# Altium schematic symbol library MCU_Microchip_PIC18.SchLib: 173 symbols (part 2 of 4)
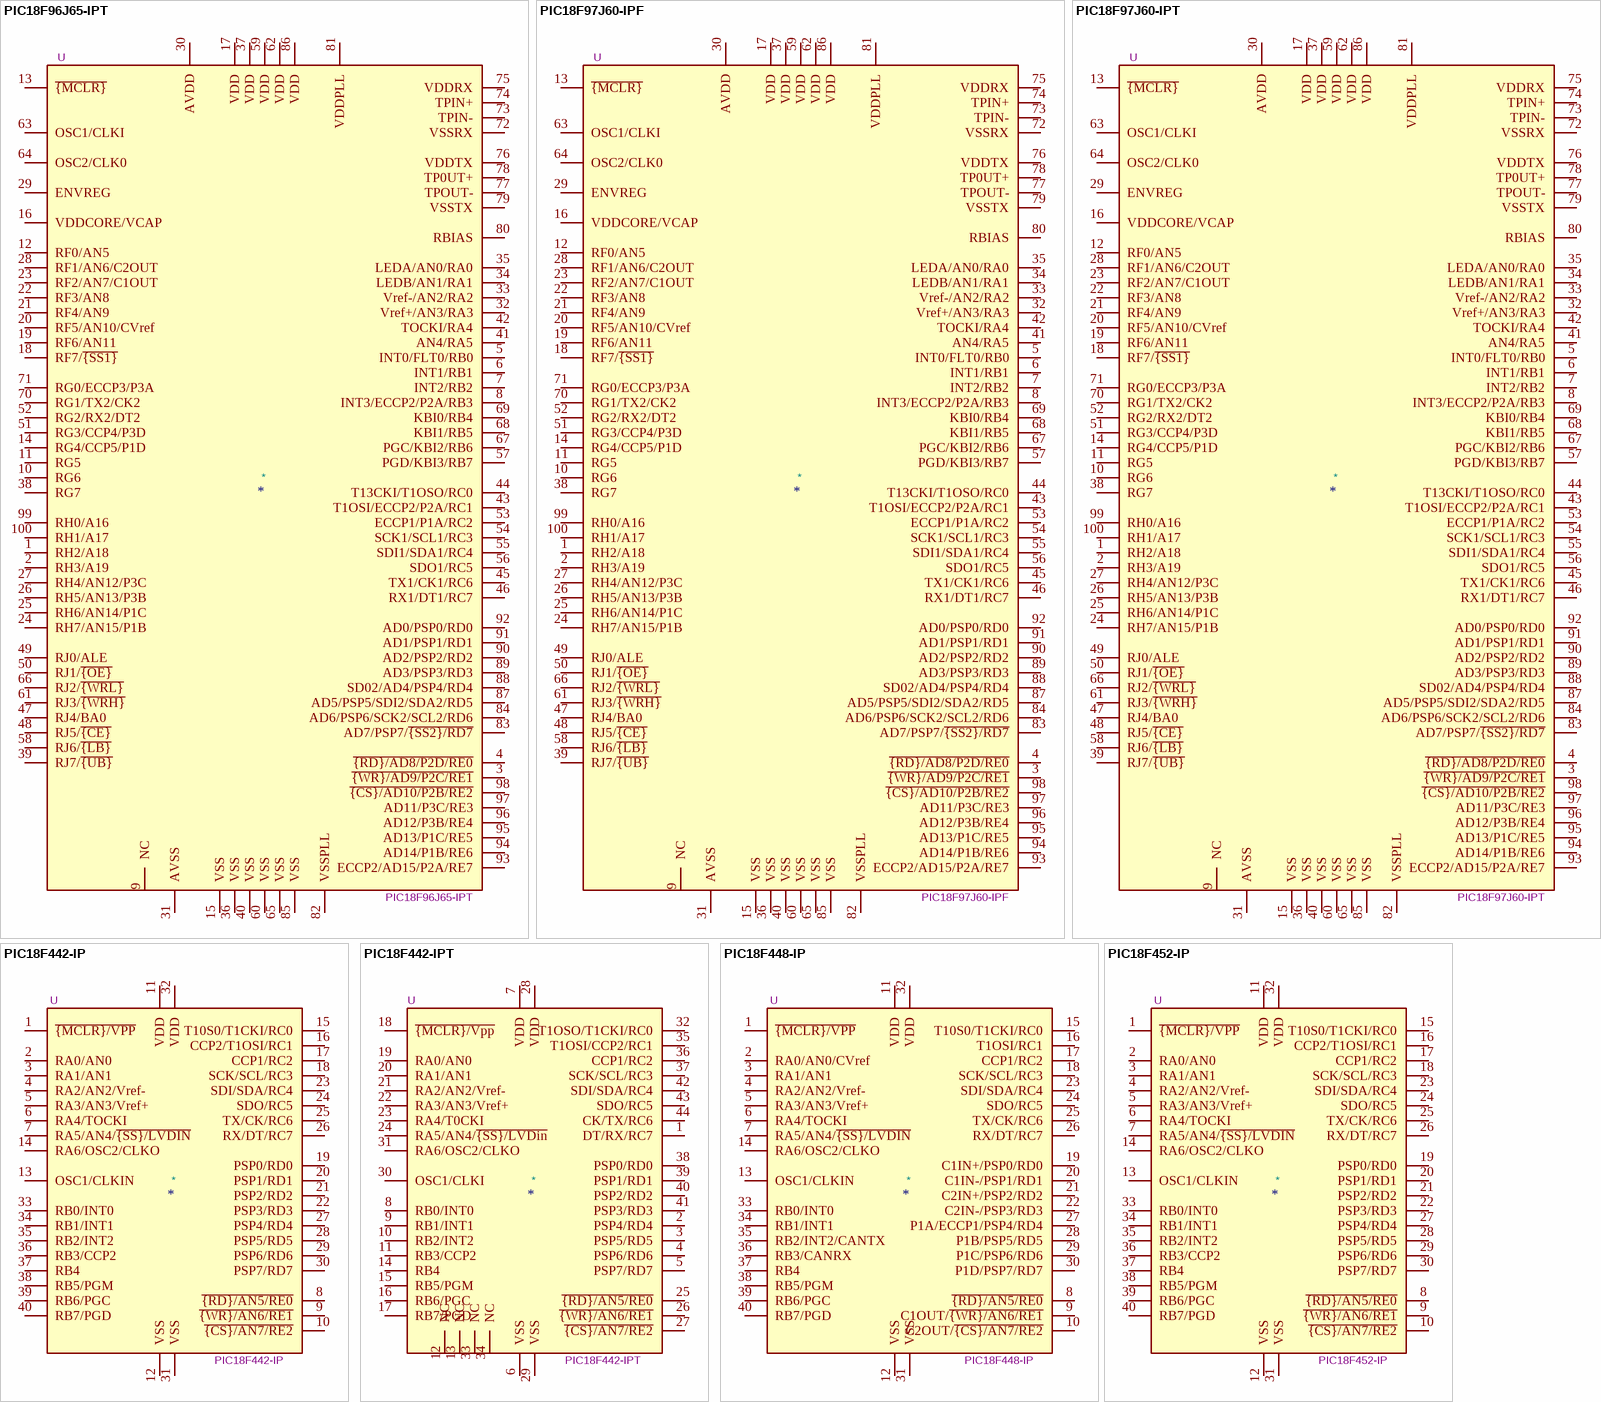
[diagram p17: symbols PIC18F96J65-IPT to PIC18F452-IP]

## PIC18F96J65-IPT
designator *  value PIC18F96J65-IPT  Reference: U
96K Flash, 3.7K SRAM, Ethernet Controller with PHY, 8K Buffer, TQFP100; ki_keywords: Flash Based 8-Bit Microcontroller Ethernet Controller PHY; ki_fp_filters: TQFP*12x12mm*P0.4mm* TQFP*14x14mm*P0.5mm*; Footprint: Package_QFP:TQFP-100_12x12mm_P0.4mm; Datasheet: http://ww1.microchip.com/downloads/en/DeviceDoc/39762f.pdf; Description_: 96K Flash, 3.7K SRAM, Ethernet Controller with PHY, 8K Buffer, TQFP100
pins: 1 RH2/A18, 2 RH3/A19, 3 ~{{WR}/AD9/P2C/RE1}, 4 ~{{RD}/AD8/P2D/RE0}, 5 INT0/FLT0/RB0, 6 INT1/RB1, 7 INT2/RB2, 8 INT3/ECCP2/P2A/RB3, 9 NC, 10 RG6, 11 RG5, 12 RF0/AN5, 13 ~{{MCLR}}, 14 RG4/CCP5/P1D, 15 VSS, 16 VDDCORE/VCAP, 17 VDD, 18 RF7/~{{SS1}}, 19 RF6/AN11, 20 RF5/AN10/CVref, 21 RF4/AN9, 22 RF3/AN8, 23 RF2/AN7/C1OUT, 24 RH7/AN15/P1B, 25 RH6/AN14/P1C, 26 RH5/AN13/P3B, 27 RH4/AN12/P3C, 28 RF1/AN6/C2OUT, 29 ENVREG, 30 AVDD, 31 AVSS, 32 Vref+/AN3/RA3, 33 Vref-/AN2/RA2, 34 LEDB/AN1/RA1, 35 LEDA/AN0/RA0, 36 VSS, 37 VDD, 38 RG7, 39 RJ7/~{{UB}}, 40 VSS, 41 AN4/RA5, 42 TOCKI/RA4, 43 T1OSI/ECCP2/P2A/RC1, 44 T13CKI/T1OSO/RC0, 45 TX1/CK1/RC6, 46 RX1/DT1/RC7, 47 RJ4/BA0, 48 RJ5/~{{CE}}, 49 RJ0/ALE, 50 RJ1/~{{OE}}, 51 RG3/CCP4/P3D, 52 RG2/RX2/DT2, 53 ECCP1/P1A/RC2, 54 SCK1/SCL1/RC3, 55 SDI1/SDA1/RC4, 56 SDO1/RC5, 57 PGD/KBI3/RB7, 58 RJ6/~{{LB}}, 59 VDD, 60 VSS, 61 RJ3/~{{WRH}}, 62 VDD, 63 OSC1/CLKI, 64 OSC2/CLK0, 65 VSS, 66 RJ2/~{{WRL}}, 67 PGC/KBI2/RB6, 68 KBI1/RB5, 69 KBI0/RB4, 70 RG1/TX2/CK2, 71 RG0/ECCP3/P3A, 72 VSSRX, 73 TPIN-, 74 TPIN+, 75 VDDRX, 76 VDDTX, 77 TPOUT-, 78 TP0UT+, 79 VSSTX, 80 RBIAS, 81 VDDPLL, 82 VSSPLL, 83 AD7/PSP7/~{{SS2}/RD7}, 84 AD6/PSP6/SCK2/SCL2/RD6, 85 VSS, 86 VDD, 87 AD5/PSP5/SDI2/SDA2/RD5, 88 SD02/AD4/PSP4/RD4, 89 AD3/PSP3/RD3, 90 AD2/PSP2/RD2, 91 AD1/PSP1/RD1, 92 AD0/PSP0/RD0, 93 ECCP2/AD15/P2A/RE7, 94 AD14/P1B/RE6, 95 AD13/P1C/RE5, 96 AD12/P3B/RE4, 97 AD11/P3C/RE3, 98 ~{{CS}/AD10/P2B/RE2}, 99 RH0/A16, 100 RH1/A17

## PIC18F97J60-IPF
designator *  value PIC18F97J60-IPF  Reference: U
128K Flash, 3.7K SRAM, Ethernet Controller with PHY, 8K Buffer, TQFP100 (14x14mm); ki_keywords: Flash Based 8-Bit Microcontroller Ethernet Controller PHY; ki_fp_filters: TQFP*12x12mm*P0.4mm* TQFP*14x14mm*P0.5mm*; Footprint: Package_QFP:TQFP-100_12x12mm_P0.4mm; Datasheet: http://ww1.microchip.com/downloads/en/DeviceDoc/39762f.pdf; Description_: 128K Flash, 3.7K SRAM, Ethernet Controller with PHY, 8K Buffer, TQFP100 (14x14mm)
pins: 1 RH2/A18, 2 RH3/A19, 3 ~{{WR}/AD9/P2C/RE1}, 4 ~{{RD}/AD8/P2D/RE0}, 5 INT0/FLT0/RB0, 6 INT1/RB1, 7 INT2/RB2, 8 INT3/ECCP2/P2A/RB3, 9 NC, 10 RG6, 11 RG5, 12 RF0/AN5, 13 ~{{MCLR}}, 14 RG4/CCP5/P1D, 15 VSS, 16 VDDCORE/VCAP, 17 VDD, 18 RF7/~{{SS1}}, 19 RF6/AN11, 20 RF5/AN10/CVref, 21 RF4/AN9, 22 RF3/AN8, 23 RF2/AN7/C1OUT, 24 RH7/AN15/P1B, 25 RH6/AN14/P1C, 26 RH5/AN13/P3B, 27 RH4/AN12/P3C, 28 RF1/AN6/C2OUT, 29 ENVREG, 30 AVDD, 31 AVSS, 32 Vref+/AN3/RA3, 33 Vref-/AN2/RA2, 34 LEDB/AN1/RA1, 35 LEDA/AN0/RA0, 36 VSS, 37 VDD, 38 RG7, 39 RJ7/~{{UB}}, 40 VSS, 41 AN4/RA5, 42 TOCKI/RA4, 43 T1OSI/ECCP2/P2A/RC1, 44 T13CKI/T1OSO/RC0, 45 TX1/CK1/RC6, 46 RX1/DT1/RC7, 47 RJ4/BA0, 48 RJ5/~{{CE}}, 49 RJ0/ALE, 50 RJ1/~{{OE}}, 51 RG3/CCP4/P3D, 52 RG2/RX2/DT2, 53 ECCP1/P1A/RC2, 54 SCK1/SCL1/RC3, 55 SDI1/SDA1/RC4, 56 SDO1/RC5, 57 PGD/KBI3/RB7, 58 RJ6/~{{LB}}, 59 VDD, 60 VSS, 61 RJ3/~{{WRH}}, 62 VDD, 63 OSC1/CLKI, 64 OSC2/CLK0, 65 VSS, 66 RJ2/~{{WRL}}, 67 PGC/KBI2/RB6, 68 KBI1/RB5, 69 KBI0/RB4, 70 RG1/TX2/CK2, 71 RG0/ECCP3/P3A, 72 VSSRX, 73 TPIN-, 74 TPIN+, 75 VDDRX, 76 VDDTX, 77 TPOUT-, 78 TP0UT+, 79 VSSTX, 80 RBIAS, 81 VDDPLL, 82 VSSPLL, 83 AD7/PSP7/~{{SS2}/RD7}, 84 AD6/PSP6/SCK2/SCL2/RD6, 85 VSS, 86 VDD, 87 AD5/PSP5/SDI2/SDA2/RD5, 88 SD02/AD4/PSP4/RD4, 89 AD3/PSP3/RD3, 90 AD2/PSP2/RD2, 91 AD1/PSP1/RD1, 92 AD0/PSP0/RD0, 93 ECCP2/AD15/P2A/RE7, 94 AD14/P1B/RE6, 95 AD13/P1C/RE5, 96 AD12/P3B/RE4, 97 AD11/P3C/RE3, 98 ~{{CS}/AD10/P2B/RE2}, 99 RH0/A16, 100 RH1/A17

## PIC18F97J60-IPT
designator *  value PIC18F97J60-IPT  Reference: U
128K Flash, 3.7K SRAM, Ethernet Controller with PHY, 8K Buffer, TQFP100; ki_keywords: Flash Based 8-Bit Microcontroller Ethernet Controller PHY; ki_fp_filters: TQFP*12x12mm*P0.4mm* TQFP*14x14mm*P0.5mm*; Footprint: Package_QFP:TQFP-100_12x12mm_P0.4mm; Datasheet: http://ww1.microchip.com/downloads/en/DeviceDoc/39762f.pdf; Description_: 128K Flash, 3.7K SRAM, Ethernet Controller with PHY, 8K Buffer, TQFP100
pins: 1 RH2/A18, 2 RH3/A19, 3 ~{{WR}/AD9/P2C/RE1}, 4 ~{{RD}/AD8/P2D/RE0}, 5 INT0/FLT0/RB0, 6 INT1/RB1, 7 INT2/RB2, 8 INT3/ECCP2/P2A/RB3, 9 NC, 10 RG6, 11 RG5, 12 RF0/AN5, 13 ~{{MCLR}}, 14 RG4/CCP5/P1D, 15 VSS, 16 VDDCORE/VCAP, 17 VDD, 18 RF7/~{{SS1}}, 19 RF6/AN11, 20 RF5/AN10/CVref, 21 RF4/AN9, 22 RF3/AN8, 23 RF2/AN7/C1OUT, 24 RH7/AN15/P1B, 25 RH6/AN14/P1C, 26 RH5/AN13/P3B, 27 RH4/AN12/P3C, 28 RF1/AN6/C2OUT, 29 ENVREG, 30 AVDD, 31 AVSS, 32 Vref+/AN3/RA3, 33 Vref-/AN2/RA2, 34 LEDB/AN1/RA1, 35 LEDA/AN0/RA0, 36 VSS, 37 VDD, 38 RG7, 39 RJ7/~{{UB}}, 40 VSS, 41 AN4/RA5, 42 TOCKI/RA4, 43 T1OSI/ECCP2/P2A/RC1, 44 T13CKI/T1OSO/RC0, 45 TX1/CK1/RC6, 46 RX1/DT1/RC7, 47 RJ4/BA0, 48 RJ5/~{{CE}}, 49 RJ0/ALE, 50 RJ1/~{{OE}}, 51 RG3/CCP4/P3D, 52 RG2/RX2/DT2, 53 ECCP1/P1A/RC2, 54 SCK1/SCL1/RC3, 55 SDI1/SDA1/RC4, 56 SDO1/RC5, 57 PGD/KBI3/RB7, 58 RJ6/~{{LB}}, 59 VDD, 60 VSS, 61 RJ3/~{{WRH}}, 62 VDD, 63 OSC1/CLKI, 64 OSC2/CLK0, 65 VSS, 66 RJ2/~{{WRL}}, 67 PGC/KBI2/RB6, 68 KBI1/RB5, 69 KBI0/RB4, 70 RG1/TX2/CK2, 71 RG0/ECCP3/P3A, 72 VSSRX, 73 TPIN-, 74 TPIN+, 75 VDDRX, 76 VDDTX, 77 TPOUT-, 78 TP0UT+, 79 VSSTX, 80 RBIAS, 81 VDDPLL, 82 VSSPLL, 83 AD7/PSP7/~{{SS2}/RD7}, 84 AD6/PSP6/SCK2/SCL2/RD6, 85 VSS, 86 VDD, 87 AD5/PSP5/SDI2/SDA2/RD5, 88 SD02/AD4/PSP4/RD4, 89 AD3/PSP3/RD3, 90 AD2/PSP2/RD2, 91 AD1/PSP1/RD1, 92 AD0/PSP0/RD0, 93 ECCP2/AD15/P2A/RE7, 94 AD14/P1B/RE6, 95 AD13/P1C/RE5, 96 AD12/P3B/RE4, 97 AD11/P3C/RE3, 98 ~{{CS}/AD10/P2B/RE2}, 99 RH0/A16, 100 RH1/A17

## PIC18F442-IP
designator *  value PIC18F442-IP  Reference: U
16K Flash, 768B SRAM, 256 EEPROM, ADC, DIP40; ki_keywords: Flash-Based 8-Bit Microcontroller; ki_fp_filters: DIP*W15.24mm* PDIP*W15.24mm*; Footprint: Package_DIP:DIP-40_W15.24mm; Datasheet: http://ww1.microchip.com/downloads/en/DeviceDoc/39564c.pdf; Description_: 16K Flash, 768B SRAM, 256 EEPROM, ADC, DIP40
pins: 1 ~{{MCLR}/VPP}, 2 RA0/AN0, 3 RA1/AN1, 4 RA2/AN2/Vref-, 5 RA3/AN3/Vref+, 6 RA4/TOCKI, 7 RA5/AN4/~{{SS}/LVDIN}, 8 ~{{RD}/AN5/RE0}, 9 ~{{WR}/AN6/RE1}, 10 ~{{CS}/AN7/RE2}, 11 VDD, 12 VSS, 13 OSC1/CLKIN, 14 RA6/OSC2/CLKO, 15 T10S0/T1CKI/RC0, 16 CCP2/T1OSI/RC1, 17 CCP1/RC2, 18 SCK/SCL/RC3, 19 PSP0/RD0, 20 PSP1/RD1, 21 PSP2/RD2, 22 PSP3/RD3, 23 SDI/SDA/RC4, 24 SDO/RC5, 25 TX/CK/RC6, 26 RX/DT/RC7, 27 PSP4/RD4, 28 PSP5/RD5, 29 PSP6/RD6, 30 PSP7/RD7, 31 VSS, 32 VDD, 33 RB0/INT0, 34 RB1/INT1, 35 RB2/INT2, 36 RB3/CCP2, 37 RB4, 38 RB5/PGM, 39 RB6/PGC, 40 RB7/PGD

## PIC18F442-IPT
designator *  value PIC18F442-IPT  Reference: U
16K Flash, 768B SRAM, 256 EEPROM, ADC, TQFP-44; ki_keywords: Flash-Based 8-Bit Microcontroller; ki_fp_filters: TQFP*10x10mm*P0.8mm*; Footprint: Package_QFP:TQFP-44_10x10mm_P0.8mm; Datasheet: http://ww1.microchip.com/downloads/en/DeviceDoc/39564c.pdf; Description_: 16K Flash, 768B SRAM, 256 EEPROM, ADC, TQFP-44
pins: 1 DT/RX/RC7, 2 PSP4/RD4, 3 PSP5/RD5, 4 PSP6/RD6, 5 PSP7/RD7, 6 VSS, 7 VDD, 8 RB0/INT0, 9 RB1/INT1, 10 RB2/INT2, 11 RB3/CCP2, 12 NC, 13 NC, 14 RB4, 15 RB5/PGM, 16 RB6/PGC, 17 RB7/PGD, 18 ~{{MCLR}/Vpp}, 19 RA0/AN0, 20 RA1/AN1, 21 RA2/AN2/Vref-, 22 RA3/AN3/Vref+, 23 RA4/T0CKI, 24 RA5/AN4/~{{SS}/LVDin}, 25 ~{{RD}/AN5/RE0}, 26 ~{{WR}/AN6/RE1}, 27 ~{{CS}/AN7/RE2}, 28 VDD, 29 VSS, 30 OSC1/CLKI, 31 RA6/OSC2/CLKO, 32 T1OSO/T1CKI/RC0, 33 NC, 34 NC, 35 T1OSI/CCP2/RC1, 36 CCP1/RC2, 37 SCK/SCL/RC3, 38 PSP0/RD0, 39 PSP1/RD1, 40 PSP2/RD2, 41 PSP3/RD3, 42 SDI/SDA/RC4, 43 SDO/RC5, 44 CK/TX/RC6

## PIC18F448-IP
designator *  value PIC18F448-IP  Reference: U
16K Flash, 768B SRAM, 256 EEPROM, CAN, DIP40; ki_keywords: Flash-Based 8-Bit Microcontroller CAN; ki_fp_filters: DIP*W15.24mm* PDIP*W15.24mm*; Footprint: Package_DIP:DIP-40_W15.24mm; Datasheet: http://ww1.microchip.com/downloads/en/DeviceDoc/41159e.pdf; Description_: 16K Flash, 768B SRAM, 256 EEPROM, CAN, DIP40
pins: 1 ~{{MCLR}/VPP}, 2 RA0/AN0/CVref, 3 RA1/AN1, 4 RA2/AN2/Vref-, 5 RA3/AN3/Vref+, 6 RA4/TOCKI, 7 RA5/AN4/~{{SS}/LVDIN}, 8 ~{{RD}/AN5/RE0}, 9 C1OUT/~{{WR}/AN6/RE1}, 10 C2OUT/~{{CS}/AN7/RE2}, 11 VDD, 12 VSS, 13 OSC1/CLKIN, 14 RA6/OSC2/CLKO, 15 T10S0/T1CKI/RC0, 16 T1OSI/RC1, 17 CCP1/RC2, 18 SCK/SCL/RC3, 19 C1IN+/PSP0/RD0, 20 C1IN-/PSP1/RD1, 21 C2IN+/PSP2/RD2, 22 C2IN-/PSP3/RD3, 23 SDI/SDA/RC4, 24 SDO/RC5, 25 TX/CK/RC6, 26 RX/DT/RC7, 27 P1A/ECCP1/PSP4/RD4, 28 P1B/PSP5/RD5, 29 P1C/PSP6/RD6, 30 P1D/PSP7/RD7, 31 VSS, 32 VDD, 33 RB0/INT0, 34 RB1/INT1, 35 RB2/INT2/CANTX, 36 RB3/CANRX, 37 RB4, 38 RB5/PGM, 39 RB6/PGC, 40 RB7/PGD

## PIC18F452-IP
designator *  value PIC18F452-IP  Reference: U
32K Flash, 1536B SRAM, 256 EEPROM, ADC, DIP40; ki_keywords: Flash-Based 8-Bit Microcontroller; ki_fp_filters: DIP*W15.24mm* PDIP*W15.24mm*; Footprint: Package_DIP:DIP-40_W15.24mm; Datasheet: http://ww1.microchip.com/downloads/en/DeviceDoc/39564c.pdf; Description_: 32K Flash, 1536B SRAM, 256 EEPROM, ADC, DIP40
pins: 1 ~{{MCLR}/VPP}, 2 RA0/AN0, 3 RA1/AN1, 4 RA2/AN2/Vref-, 5 RA3/AN3/Vref+, 6 RA4/TOCKI, 7 RA5/AN4/~{{SS}/LVDIN}, 8 ~{{RD}/AN5/RE0}, 9 ~{{WR}/AN6/RE1}, 10 ~{{CS}/AN7/RE2}, 11 VDD, 12 VSS, 13 OSC1/CLKIN, 14 RA6/OSC2/CLKO, 15 T10S0/T1CKI/RC0, 16 CCP2/T1OSI/RC1, 17 CCP1/RC2, 18 SCK/SCL/RC3, 19 PSP0/RD0, 20 PSP1/RD1, 21 PSP2/RD2, 22 PSP3/RD3, 23 SDI/SDA/RC4, 24 SDO/RC5, 25 TX/CK/RC6, 26 RX/DT/RC7, 27 PSP4/RD4, 28 PSP5/RD5, 29 PSP6/RD6, 30 PSP7/RD7, 31 VSS, 32 VDD, 33 RB0/INT0, 34 RB1/INT1, 35 RB2/INT2, 36 RB3/CCP2, 37 RB4, 38 RB5/PGM, 39 RB6/PGC, 40 RB7/PGD

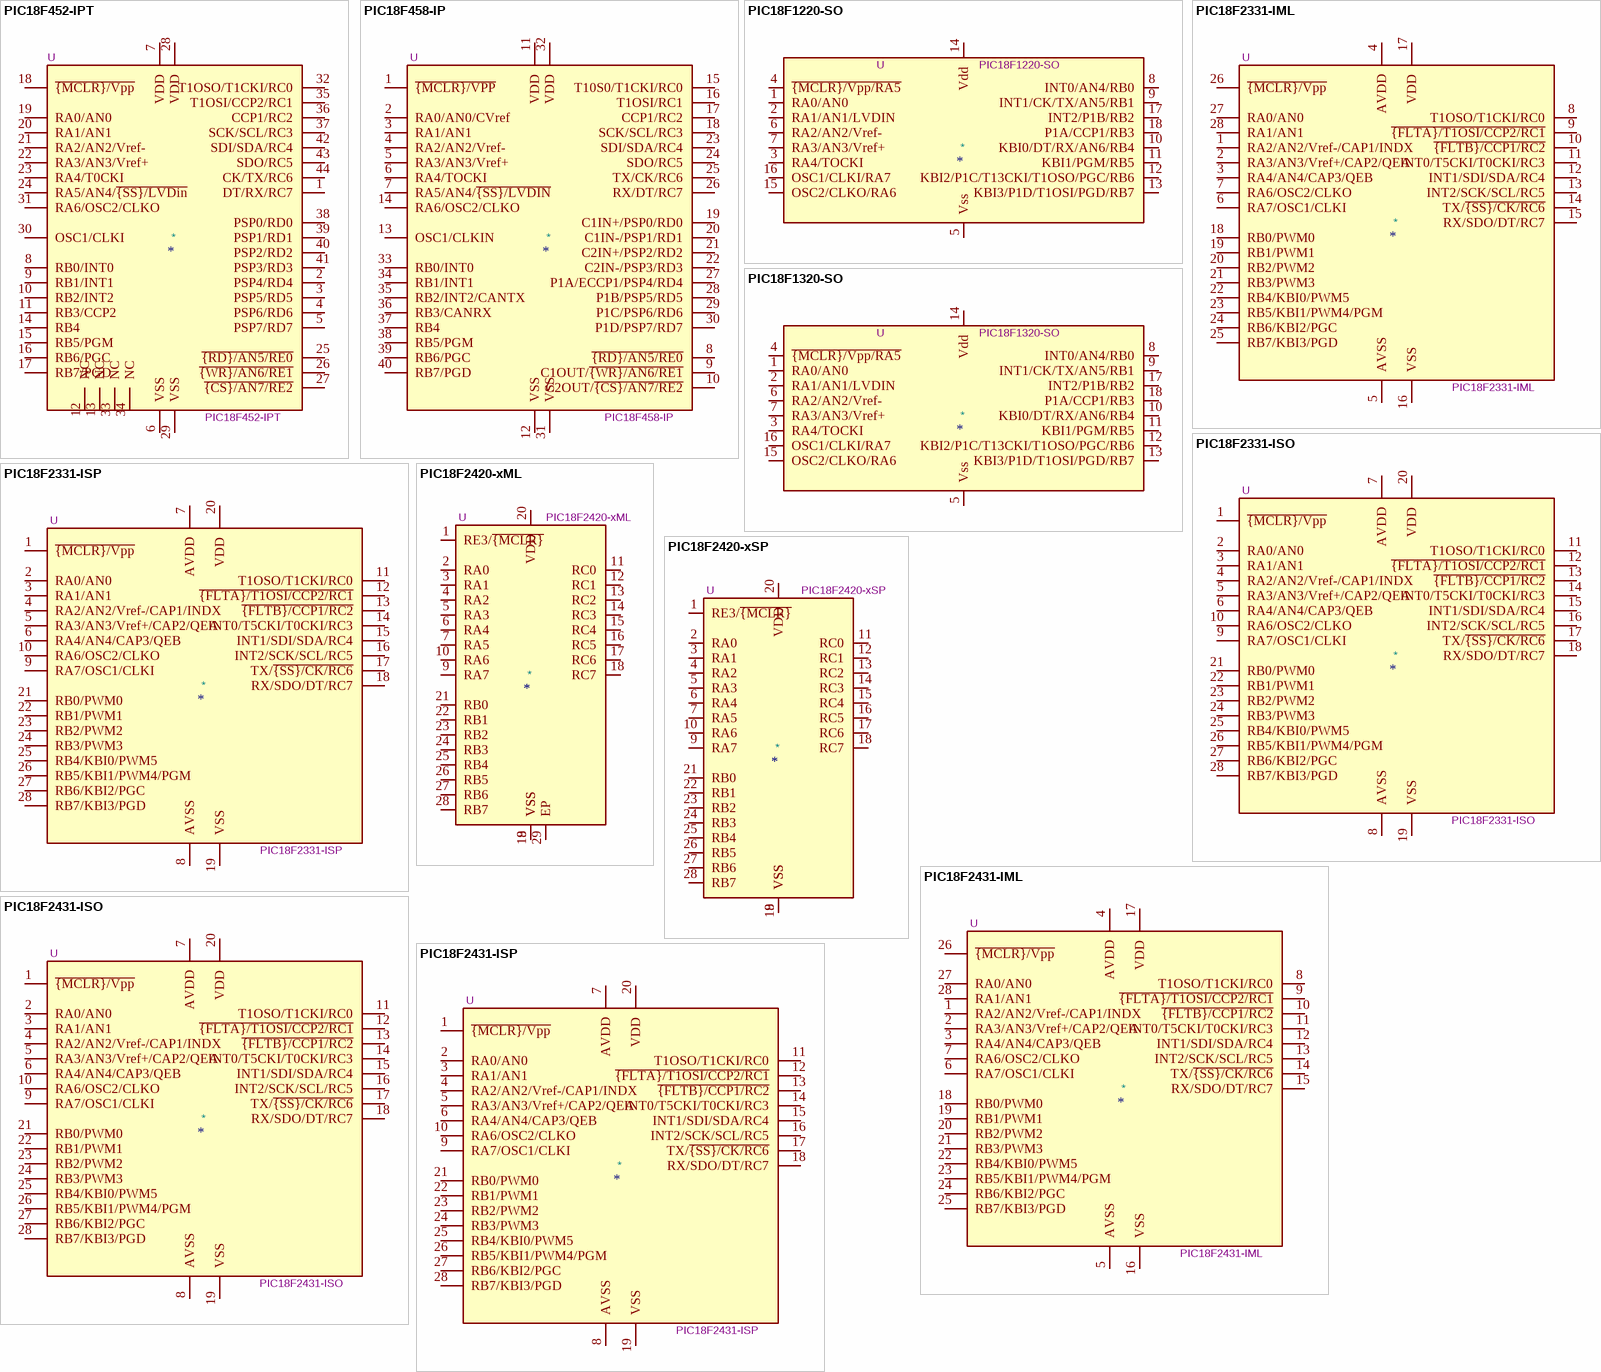
[diagram p6: symbols PIC18F452-IPT to PIC18F2431-ISP]

## PIC18F452-IPT
designator *  value PIC18F452-IPT  Reference: U
32K Flash, 1536B SRAM, 256 EEPROM, ADC, TQFP-44; ki_keywords: Flash-Based 8-Bit Microcontroller; ki_fp_filters: TQFP*10x10mm*P0.8mm*; Footprint: Package_QFP:TQFP-44_10x10mm_P0.8mm; Datasheet: http://ww1.microchip.com/downloads/en/DeviceDoc/39564c.pdf; Description_: 32K Flash, 1536B SRAM, 256 EEPROM, ADC, TQFP-44
pins: 1 DT/RX/RC7, 2 PSP4/RD4, 3 PSP5/RD5, 4 PSP6/RD6, 5 PSP7/RD7, 6 VSS, 7 VDD, 8 RB0/INT0, 9 RB1/INT1, 10 RB2/INT2, 11 RB3/CCP2, 12 NC, 13 NC, 14 RB4, 15 RB5/PGM, 16 RB6/PGC, 17 RB7/PGD, 18 ~{{MCLR}/Vpp}, 19 RA0/AN0, 20 RA1/AN1, 21 RA2/AN2/Vref-, 22 RA3/AN3/Vref+, 23 RA4/T0CKI, 24 RA5/AN4/~{{SS}/LVDin}, 25 ~{{RD}/AN5/RE0}, 26 ~{{WR}/AN6/RE1}, 27 ~{{CS}/AN7/RE2}, 28 VDD, 29 VSS, 30 OSC1/CLKI, 31 RA6/OSC2/CLKO, 32 T1OSO/T1CKI/RC0, 33 NC, 34 NC, 35 T1OSI/CCP2/RC1, 36 CCP1/RC2, 37 SCK/SCL/RC3, 38 PSP0/RD0, 39 PSP1/RD1, 40 PSP2/RD2, 41 PSP3/RD3, 42 SDI/SDA/RC4, 43 SDO/RC5, 44 CK/TX/RC6

## PIC18F458-IP
designator *  value PIC18F458-IP  Reference: U
32K Flash, 1536B SRAM, 256 EEPROM, CAN, DIP40; ki_keywords: Flash-Based 8-Bit Microcontroller CAN; ki_fp_filters: DIP*W15.24mm* PDIP*W15.24mm*; Footprint: Package_DIP:DIP-40_W15.24mm; Datasheet: http://ww1.microchip.com/downloads/en/DeviceDoc/41159e.pdf; Description_: 32K Flash, 1536B SRAM, 256 EEPROM, CAN, DIP40
pins: 1 ~{{MCLR}/VPP}, 2 RA0/AN0/CVref, 3 RA1/AN1, 4 RA2/AN2/Vref-, 5 RA3/AN3/Vref+, 6 RA4/TOCKI, 7 RA5/AN4/~{{SS}/LVDIN}, 8 ~{{RD}/AN5/RE0}, 9 C1OUT/~{{WR}/AN6/RE1}, 10 C2OUT/~{{CS}/AN7/RE2}, 11 VDD, 12 VSS, 13 OSC1/CLKIN, 14 RA6/OSC2/CLKO, 15 T10S0/T1CKI/RC0, 16 T1OSI/RC1, 17 CCP1/RC2, 18 SCK/SCL/RC3, 19 C1IN+/PSP0/RD0, 20 C1IN-/PSP1/RD1, 21 C2IN+/PSP2/RD2, 22 C2IN-/PSP3/RD3, 23 SDI/SDA/RC4, 24 SDO/RC5, 25 TX/CK/RC6, 26 RX/DT/RC7, 27 P1A/ECCP1/PSP4/RD4, 28 P1B/PSP5/RD5, 29 P1C/PSP6/RD6, 30 P1D/PSP7/RD7, 31 VSS, 32 VDD, 33 RB0/INT0, 34 RB1/INT1, 35 RB2/INT2/CANTX, 36 RB3/CANRX, 37 RB4, 38 RB5/PGM, 39 RB6/PGC, 40 RB7/PGD

## PIC18F1220-SO
designator *  value PIC18F1220-SO  Reference: U
18-Pin Flash Microcontroller 4K Flash 256byte RAM; ki_keywords: RAM ADC UART PWM; ki_fp_filters: SOIC*W*7.5x11.6mm*P1.27mm*; Footprint: Package_SO:SOIC-18W_7.5x11.6mm_P1.27mm; Datasheet: http://ww1.microchip.com/downloads/en/DeviceDoc/39605F.pdf; Description_: 18-Pin Flash Microcontroller 4K Flash 256byte RAM
pins: 1 RA0/AN0, 2 RA1/AN1/LVDIN, 3 RA4/TOCKI, 4 ~{{MCLR}/Vpp/RA5}, 5 Vss, 6 RA2/AN2/Vref-, 7 RA3/AN3/Vref+, 8 INT0/AN4/RB0, 9 INT1/CK/TX/AN5/RB1, 10 KBI0/DT/RX/AN6/RB4, 11 KBI1/PGM/RB5, 12 KBI2/P1C/T13CKI/T1OSO/PGC/RB6, 13 KBI3/P1D/T1OSI/PGD/RB7, 14 Vdd, 15 OSC2/CLKO/RA6, 16 OSC1/CLKI/RA7, 17 INT2/P1B/RB2, 18 P1A/CCP1/RB3

## PIC18F1320-SO
designator *  value PIC18F1320-SO  Reference: U
18-Pin Flash Microcontroller 8K Flash 256byte RAM; ki_keywords: RAM ADC UART PWM; ki_fp_filters: SOIC*W*7.5x11.6mm*P1.27mm*; Footprint: Package_SO:SOIC-18W_7.5x11.6mm_P1.27mm; Datasheet: http://ww1.microchip.com/downloads/en/DeviceDoc/39605F.pdf; Description_: 18-Pin Flash Microcontroller 8K Flash 256byte RAM
pins: 1 RA0/AN0, 2 RA1/AN1/LVDIN, 3 RA4/TOCKI, 4 ~{{MCLR}/Vpp/RA5}, 5 Vss, 6 RA2/AN2/Vref-, 7 RA3/AN3/Vref+, 8 INT0/AN4/RB0, 9 INT1/CK/TX/AN5/RB1, 10 KBI0/DT/RX/AN6/RB4, 11 KBI1/PGM/RB5, 12 KBI2/P1C/T13CKI/T1OSO/PGC/RB6, 13 KBI3/P1D/T1OSI/PGD/RB7, 14 Vdd, 15 OSC2/CLKO/RA6, 16 OSC1/CLKI/RA7, 17 INT2/P1B/RB2, 18 P1A/CCP1/RB3

## PIC18F2331-IML
designator *  value PIC18F2331-IML  Reference: U
8K Flash, 768B SRAM, 256B EEPROM, nanoWatt XLP, ADC, PWM, QFN28; ki_keywords: Flash-Based 8-Bit Microcontroller XLP; ki_fp_filters: QFN*1EP*6x6mm*P0.65mm*; Footprint: Package_DFN_QFN:QFN-28-1EP_6x6mm_P0.65mm_EP4.25x4.25mm; Datasheet: http://ww1.microchip.com/downloads/en/DeviceDoc/39616d.pdf; Description_: 8K Flash, 768B SRAM, 256B EEPROM, nanoWatt XLP, ADC, PWM, QFN28
pins: 1 RA2/AN2/Vref-/CAP1/INDX, 2 RA3/AN3/Vref+/CAP2/QEA, 3 RA4/AN4/CAP3/QEB, 4 AVDD, 5 AVSS, 6 RA7/OSC1/CLKI, 7 RA6/OSC2/CLKO, 8 T1OSO/T1CKI/RC0, 9 ~{{FLTA}/T1OSI/CCP2/RC1}, 10 ~{{FLTB}/CCP1/RC2}, 11 INT0/T5CKI/T0CKI/RC3, 12 INT1/SDI/SDA/RC4, 13 INT2/SCK/SCL/RC5, 14 TX/~{{SS}/CK/RC6}, 15 RX/SDO/DT/RC7, 16 VSS, 17 VDD, 18 RB0/PWM0, 19 RB1/PWM1, 20 RB2/PWM2, 21 RB3/PWM3, 22 RB4/KBI0/PWM5, 23 RB5/KBI1/PWM4/PGM, 24 RB6/KBI2/PGC, 25 RB7/KBI3/PGD, 26 ~{{MCLR}/Vpp}, 27 RA0/AN0, 28 RA1/AN1

## PIC18F2331-ISO
designator *  value PIC18F2331-ISO  Reference: U
8K Flash, 768B SRAM, 256B EEPROM, nanoWatt XLP, ADC, PWM, SOIC28; ki_keywords: Flash-Based 8-Bit Microcontroller XLP; ki_fp_filters: SO*W*7.5x17.9mm*P1.27mm*; Footprint: Package_SO:SOIC-28W_7.5x17.9mm_P1.27mm; Datasheet: http://ww1.microchip.com/downloads/en/DeviceDoc/39616d.pdf; Description_: 8K Flash, 768B SRAM, 256B EEPROM, nanoWatt XLP, ADC, PWM, SOIC28
pins: 1 ~{{MCLR}/Vpp}, 2 RA0/AN0, 3 RA1/AN1, 4 RA2/AN2/Vref-/CAP1/INDX, 5 RA3/AN3/Vref+/CAP2/QEA, 6 RA4/AN4/CAP3/QEB, 7 AVDD, 8 AVSS, 9 RA7/OSC1/CLKI, 10 RA6/OSC2/CLKO, 11 T1OSO/T1CKI/RC0, 12 ~{{FLTA}/T1OSI/CCP2/RC1}, 13 ~{{FLTB}/CCP1/RC2}, 14 INT0/T5CKI/T0CKI/RC3, 15 INT1/SDI/SDA/RC4, 16 INT2/SCK/SCL/RC5, 17 TX/~{{SS}/CK/RC6}, 18 RX/SDO/DT/RC7, 19 VSS, 20 VDD, 21 RB0/PWM0, 22 RB1/PWM1, 23 RB2/PWM2, 24 RB3/PWM3, 25 RB4/KBI0/PWM5, 26 RB5/KBI1/PWM4/PGM, 27 RB6/KBI2/PGC, 28 RB7/KBI3/PGD

## PIC18F2331-ISP
designator *  value PIC18F2331-ISP  Reference: U
8K Flash, 768B SRAM, 256B EEPROM, nanoWatt XLP, ADC, PWM, SPDIP28; ki_keywords: Flash-Based 8-Bit Microcontroller XLP; ki_fp_filters: DIP*W7.62mm* PDIP*W7.62mm*; Footprint: Package_DIP:DIP-28_W7.62mm; Datasheet: http://ww1.microchip.com/downloads/en/DeviceDoc/39616d.pdf; Description_: 8K Flash, 768B SRAM, 256B EEPROM, nanoWatt XLP, ADC, PWM, SPDIP28
pins: 1 ~{{MCLR}/Vpp}, 2 RA0/AN0, 3 RA1/AN1, 4 RA2/AN2/Vref-/CAP1/INDX, 5 RA3/AN3/Vref+/CAP2/QEA, 6 RA4/AN4/CAP3/QEB, 7 AVDD, 8 AVSS, 9 RA7/OSC1/CLKI, 10 RA6/OSC2/CLKO, 11 T1OSO/T1CKI/RC0, 12 ~{{FLTA}/T1OSI/CCP2/RC1}, 13 ~{{FLTB}/CCP1/RC2}, 14 INT0/T5CKI/T0CKI/RC3, 15 INT1/SDI/SDA/RC4, 16 INT2/SCK/SCL/RC5, 17 TX/~{{SS}/CK/RC6}, 18 RX/SDO/DT/RC7, 19 VSS, 20 VDD, 21 RB0/PWM0, 22 RB1/PWM1, 23 RB2/PWM2, 24 RB3/PWM3, 25 RB4/KBI0/PWM5, 26 RB5/KBI1/PWM4/PGM, 27 RB6/KBI2/PGC, 28 RB7/KBI3/PGD

## PIC18F2420-xML
designator *  value PIC18F2420-xML  Reference: U
MCU 16k Flash, 768B SRAM, 256B EEPROM, ADC, QFN-28; ki_keywords: Flash-Based 8bit CMOS Microcontroller; ki_fp_filters: QFN*1EP*6x6mm*P0.65mm*; Footprint: Package_DFN_QFN:QFN-28-1EP_6x6mm_P0.65mm_EP4.25x4.25mm; Datasheet: http://ww1.microchip.com/downloads/en/DeviceDoc/39631E.pdf; Description_: MCU 16k Flash, 768B SRAM, 256B EEPROM, ADC, QFN-28
pins: 1 RE3/~{{MCLR}}, 2 RA0, 3 RA1, 4 RA2, 5 RA3, 6 RA4, 7 RA5, 8 VSS, 9 RA7, 10 RA6, 11 RC0, 12 RC1, 13 RC2, 14 RC3, 15 RC4, 16 RC5, 17 RC6, 18 RC7, 19 VSS, 20 VDD, 21 RB0, 22 RB1, 23 RB2, 24 RB3, 25 RB4, 26 RB5, 27 RB6, 28 RB7, 29 EP

## PIC18F2420-xSP
designator *  value PIC18F2420-xSP  Reference: U
MCU 16k Flash, 768B SRAM, 256B EEPROM, ADC, DIP-28; ki_keywords: Flash-Based 8bit CMOS Microcontroller; ki_fp_filters: DIP*W15.24mm*; Footprint: Package_DIP:DIP-28_W15.24mm; Datasheet: http://ww1.microchip.com/downloads/en/DeviceDoc/39631E.pdf; Description_: MCU 16k Flash, 768B SRAM, 256B EEPROM, ADC, DIP-28
pins: 1 RE3/~{{MCLR}}, 2 RA0, 3 RA1, 4 RA2, 5 RA3, 6 RA4, 7 RA5, 8 VSS, 9 RA7, 10 RA6, 11 RC0, 12 RC1, 13 RC2, 14 RC3, 15 RC4, 16 RC5, 17 RC6, 18 RC7, 19 VSS, 20 VDD, 21 RB0, 22 RB1, 23 RB2, 24 RB3, 25 RB4, 26 RB5, 27 RB6, 28 RB7

## PIC18F2431-IML
designator *  value PIC18F2431-IML  Reference: U
16K Flash, 768B SRAM, 256B EEPROM, nanoWatt XLP, ADC, PWM, QFN28; ki_keywords: Flash-Based 8-Bit Microcontroller XLP; ki_fp_filters: QFN*1EP*6x6mm*P0.65mm*; Footprint: Package_DFN_QFN:QFN-28-1EP_6x6mm_P0.65mm_EP4.25x4.25mm; Datasheet: http://ww1.microchip.com/downloads/en/DeviceDoc/39616d.pdf; Description_: 16K Flash, 768B SRAM, 256B EEPROM, nanoWatt XLP, ADC, PWM, QFN28
pins: 1 RA2/AN2/Vref-/CAP1/INDX, 2 RA3/AN3/Vref+/CAP2/QEA, 3 RA4/AN4/CAP3/QEB, 4 AVDD, 5 AVSS, 6 RA7/OSC1/CLKI, 7 RA6/OSC2/CLKO, 8 T1OSO/T1CKI/RC0, 9 ~{{FLTA}/T1OSI/CCP2/RC1}, 10 ~{{FLTB}/CCP1/RC2}, 11 INT0/T5CKI/T0CKI/RC3, 12 INT1/SDI/SDA/RC4, 13 INT2/SCK/SCL/RC5, 14 TX/~{{SS}/CK/RC6}, 15 RX/SDO/DT/RC7, 16 VSS, 17 VDD, 18 RB0/PWM0, 19 RB1/PWM1, 20 RB2/PWM2, 21 RB3/PWM3, 22 RB4/KBI0/PWM5, 23 RB5/KBI1/PWM4/PGM, 24 RB6/KBI2/PGC, 25 RB7/KBI3/PGD, 26 ~{{MCLR}/Vpp}, 27 RA0/AN0, 28 RA1/AN1

## PIC18F2431-ISO
designator *  value PIC18F2431-ISO  Reference: U
16K Flash, 768B SRAM, 256B EEPROM, nanoWatt XLP, ADC, PWM, SOIC28; ki_keywords: Flash-Based 8-Bit Microcontroller XLP; ki_fp_filters: SO*W*7.5x17.9mm*P1.27mm*; Footprint: Package_SO:SOIC-28W_7.5x17.9mm_P1.27mm; Datasheet: http://ww1.microchip.com/downloads/en/DeviceDoc/39616d.pdf; Description_: 16K Flash, 768B SRAM, 256B EEPROM, nanoWatt XLP, ADC, PWM, SOIC28
pins: 1 ~{{MCLR}/Vpp}, 2 RA0/AN0, 3 RA1/AN1, 4 RA2/AN2/Vref-/CAP1/INDX, 5 RA3/AN3/Vref+/CAP2/QEA, 6 RA4/AN4/CAP3/QEB, 7 AVDD, 8 AVSS, 9 RA7/OSC1/CLKI, 10 RA6/OSC2/CLKO, 11 T1OSO/T1CKI/RC0, 12 ~{{FLTA}/T1OSI/CCP2/RC1}, 13 ~{{FLTB}/CCP1/RC2}, 14 INT0/T5CKI/T0CKI/RC3, 15 INT1/SDI/SDA/RC4, 16 INT2/SCK/SCL/RC5, 17 TX/~{{SS}/CK/RC6}, 18 RX/SDO/DT/RC7, 19 VSS, 20 VDD, 21 RB0/PWM0, 22 RB1/PWM1, 23 RB2/PWM2, 24 RB3/PWM3, 25 RB4/KBI0/PWM5, 26 RB5/KBI1/PWM4/PGM, 27 RB6/KBI2/PGC, 28 RB7/KBI3/PGD

## PIC18F2431-ISP
designator *  value PIC18F2431-ISP  Reference: U
16K Flash, 768B SRAM, 256B EEPROM, nanoWatt XLP, ADC, PWM, SPDIP28; ki_keywords: Flash-Based 8-Bit Microcontroller XLP; ki_fp_filters: DIP*W7.62mm* PDIP*W7.62mm*; Footprint: Package_DIP:DIP-28_W7.62mm; Datasheet: http://ww1.microchip.com/downloads/en/DeviceDoc/39616d.pdf; Description_: 16K Flash, 768B SRAM, 256B EEPROM, nanoWatt XLP, ADC, PWM, SPDIP28
pins: 1 ~{{MCLR}/Vpp}, 2 RA0/AN0, 3 RA1/AN1, 4 RA2/AN2/Vref-/CAP1/INDX, 5 RA3/AN3/Vref+/CAP2/QEA, 6 RA4/AN4/CAP3/QEB, 7 AVDD, 8 AVSS, 9 RA7/OSC1/CLKI, 10 RA6/OSC2/CLKO, 11 T1OSO/T1CKI/RC0, 12 ~{{FLTA}/T1OSI/CCP2/RC1}, 13 ~{{FLTB}/CCP1/RC2}, 14 INT0/T5CKI/T0CKI/RC3, 15 INT1/SDI/SDA/RC4, 16 INT2/SCK/SCL/RC5, 17 TX/~{{SS}/CK/RC6}, 18 RX/SDO/DT/RC7, 19 VSS, 20 VDD, 21 RB0/PWM0, 22 RB1/PWM1, 23 RB2/PWM2, 24 RB3/PWM3, 25 RB4/KBI0/PWM5, 26 RB5/KBI1/PWM4/PGM, 27 RB6/KBI2/PGC, 28 RB7/KBI3/PGD

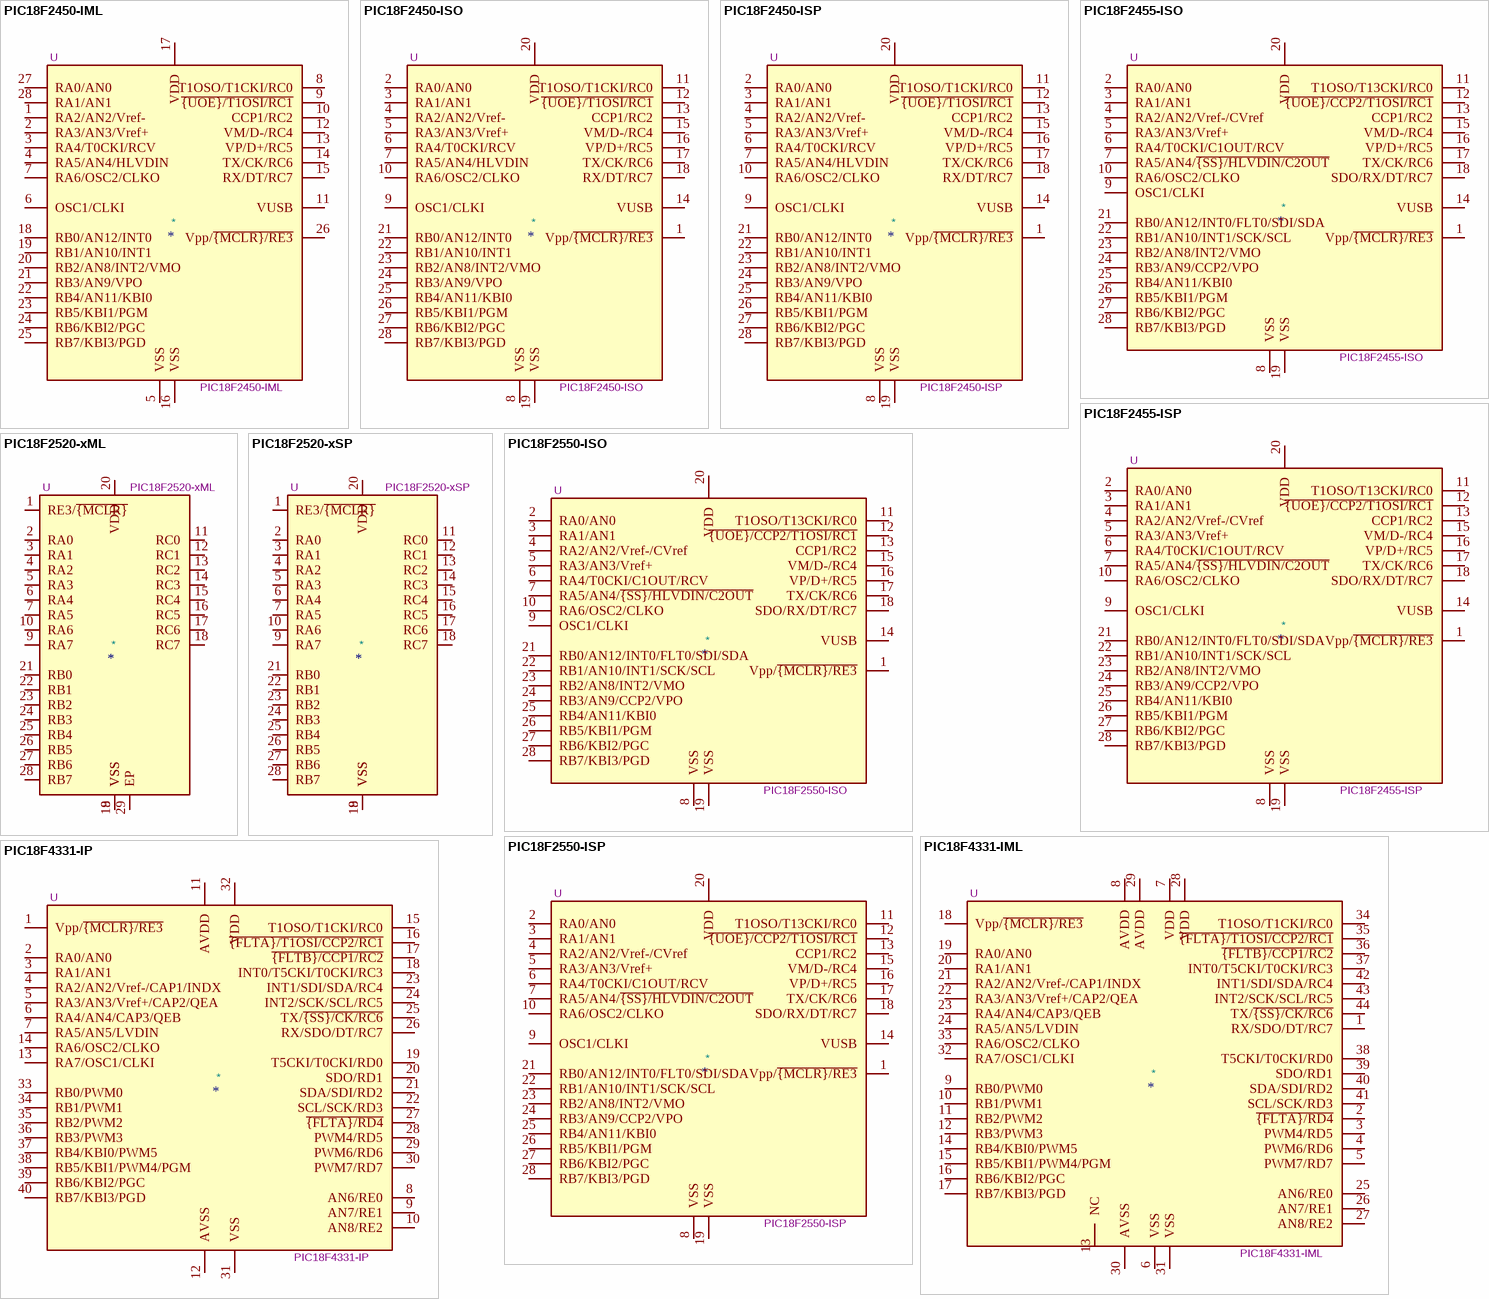
[diagram p7: symbols PIC18F2450-IML to PIC18F4331-IP]

## PIC18F2450-IML
designator *  value PIC18F2450-IML  Reference: U
16K Flash, 8K SRAM, USB, nanoWatt XLP, QFN28; ki_keywords: Flash-Based 8-Bit Microcontroller XLP; ki_fp_filters: QFN*1EP*6x6mm*P0.65mm*; Footprint: Package_DFN_QFN:QFN-28-1EP_6x6mm_P0.65mm_EP4.25x4.25mm; Datasheet: http://ww1.microchip.com/downloads/en/DeviceDoc/39760d.pdf; Description_: 16K Flash, 8K SRAM, USB, nanoWatt XLP, QFN28
pins: 1 RA2/AN2/Vref-, 2 RA3/AN3/Vref+, 3 RA4/T0CKI/RCV, 4 RA5/AN4/HLVDIN, 5 VSS, 6 OSC1/CLKI, 7 RA6/OSC2/CLKO, 8 T1OSO/T1CKI/RC0, 9 ~{{UOE}/T1OSI/RC1}, 10 CCP1/RC2, 11 VUSB, 12 VM/D-/RC4, 13 VP/D+/RC5, 14 TX/CK/RC6, 15 RX/DT/RC7, 16 VSS, 17 VDD, 18 RB0/AN12/INT0, 19 RB1/AN10/INT1, 20 RB2/AN8/INT2/VMO, 21 RB3/AN9/VPO, 22 RB4/AN11/KBI0, 23 RB5/KBI1/PGM, 24 RB6/KBI2/PGC, 25 RB7/KBI3/PGD, 26 Vpp/~{{MCLR}/RE3}, 27 RA0/AN0, 28 RA1/AN1

## PIC18F2450-ISO
designator *  value PIC18F2450-ISO  Reference: U
16K Flash, 8K SRAM, USB, nanoWatt XLP, SOIC28; ki_keywords: Flash-Based 8-Bit Microcontroller XLP; ki_fp_filters: SOIC*W*7.5x12.8mm*P1.27mm*; Footprint: Package_SO:SOIC-20W_7.5x12.8mm_P1.27mm; Datasheet: http://ww1.microchip.com/downloads/en/DeviceDoc/39760d.pdf; Description_: 16K Flash, 8K SRAM, USB, nanoWatt XLP, SOIC28
pins: 1 Vpp/~{{MCLR}/RE3}, 2 RA0/AN0, 3 RA1/AN1, 4 RA2/AN2/Vref-, 5 RA3/AN3/Vref+, 6 RA4/T0CKI/RCV, 7 RA5/AN4/HLVDIN, 8 VSS, 9 OSC1/CLKI, 10 RA6/OSC2/CLKO, 11 T1OSO/T1CKI/RC0, 12 ~{{UOE}/T1OSI/RC1}, 13 CCP1/RC2, 14 VUSB, 15 VM/D-/RC4, 16 VP/D+/RC5, 17 TX/CK/RC6, 18 RX/DT/RC7, 19 VSS, 20 VDD, 21 RB0/AN12/INT0, 22 RB1/AN10/INT1, 23 RB2/AN8/INT2/VMO, 24 RB3/AN9/VPO, 25 RB4/AN11/KBI0, 26 RB5/KBI1/PGM, 27 RB6/KBI2/PGC, 28 RB7/KBI3/PGD

## PIC18F2450-ISP
designator *  value PIC18F2450-ISP  Reference: U
16K Flash, 8K SRAM, USB, nanoWatt XLP, SPDIP28; ki_keywords: Flash-Based 8-Bit Microcontroller XLP; ki_fp_filters: SPDIP*W7.62mm* DIP*W7.62mm* PDIP*W7.62mm*; Footprint: Package_DIP:DIP-28_W7.62mm; Datasheet: http://ww1.microchip.com/downloads/en/DeviceDoc/39760d.pdf; Description_: 16K Flash, 8K SRAM, USB, nanoWatt XLP, SPDIP28
pins: 1 Vpp/~{{MCLR}/RE3}, 2 RA0/AN0, 3 RA1/AN1, 4 RA2/AN2/Vref-, 5 RA3/AN3/Vref+, 6 RA4/T0CKI/RCV, 7 RA5/AN4/HLVDIN, 8 VSS, 9 OSC1/CLKI, 10 RA6/OSC2/CLKO, 11 T1OSO/T1CKI/RC0, 12 ~{{UOE}/T1OSI/RC1}, 13 CCP1/RC2, 14 VUSB, 15 VM/D-/RC4, 16 VP/D+/RC5, 17 TX/CK/RC6, 18 RX/DT/RC7, 19 VSS, 20 VDD, 21 RB0/AN12/INT0, 22 RB1/AN10/INT1, 23 RB2/AN8/INT2/VMO, 24 RB3/AN9/VPO, 25 RB4/AN11/KBI0, 26 RB5/KBI1/PGM, 27 RB6/KBI2/PGC, 28 RB7/KBI3/PGD

## PIC18F2455-ISO
designator *  value PIC18F2455-ISO  Reference: U
24K Flash, 2K SRAM, 256 EEPROM, USB, nanoWatt XLP, SOIC28; ki_keywords: Flash-Based 8-Bit Microcontroller XLP; ki_fp_filters: SO*W*7.5x17.9mm_P1.27mm*; Footprint: Package_SO:SOIC-28W_7.5x17.9mm_P1.27mm; Datasheet: http://ww1.microchip.com/downloads/en/devicedoc/39632c.pdf; Description_: 24K Flash, 2K SRAM, 256 EEPROM, USB, nanoWatt XLP, SOIC28
pins: 1 Vpp/~{{MCLR}/RE3}, 2 RA0/AN0, 3 RA1/AN1, 4 RA2/AN2/Vref-/CVref, 5 RA3/AN3/Vref+, 6 RA4/T0CKI/C1OUT/RCV, 7 RA5/AN4/~{{SS}/HLVDIN/C2OUT}, 8 VSS, 9 OSC1/CLKI, 10 RA6/OSC2/CLKO, 11 T1OSO/T13CKI/RC0, 12 ~{{UOE}/CCP2/T1OSI/RC1}, 13 CCP1/RC2, 14 VUSB, 15 VM/D-/RC4, 16 VP/D+/RC5, 17 TX/CK/RC6, 18 SDO/RX/DT/RC7, 19 VSS, 20 VDD, 21 RB0/AN12/INT0/FLT0/SDI/SDA, 22 RB1/AN10/INT1/SCK/SCL, 23 RB2/AN8/INT2/VMO, 24 RB3/AN9/CCP2/VPO, 25 RB4/AN11/KBI0, 26 RB5/KBI1/PGM, 27 RB6/KBI2/PGC, 28 RB7/KBI3/PGD

## PIC18F2455-ISP
designator *  value PIC18F2455-ISP  Reference: U
24K Flash, 2K SRAM, 256 EEPROM, USB, nanoWatt XLP, SPDIP28; ki_keywords: Flash-Based 8-Bit Microcontroller XLP; ki_fp_filters: SPDIP*28_W7.62mm* DIP*28_W7.62mm* PDIP*28_W7.62mm*; Footprint: Package_DIP:DIP-28_W7.62mm; Datasheet: http://ww1.microchip.com/downloads/en/devicedoc/39632c.pdf; Description_: 24K Flash, 2K SRAM, 256 EEPROM, USB, nanoWatt XLP, SPDIP28
pins: 1 Vpp/~{{MCLR}/RE3}, 2 RA0/AN0, 3 RA1/AN1, 4 RA2/AN2/Vref-/CVref, 5 RA3/AN3/Vref+, 6 RA4/T0CKI/C1OUT/RCV, 7 RA5/AN4/~{{SS}/HLVDIN/C2OUT}, 8 VSS, 9 OSC1/CLKI, 10 RA6/OSC2/CLKO, 11 T1OSO/T13CKI/RC0, 12 ~{{UOE}/CCP2/T1OSI/RC1}, 13 CCP1/RC2, 14 VUSB, 15 VM/D-/RC4, 16 VP/D+/RC5, 17 TX/CK/RC6, 18 SDO/RX/DT/RC7, 19 VSS, 20 VDD, 21 RB0/AN12/INT0/FLT0/SDI/SDA, 22 RB1/AN10/INT1/SCK/SCL, 23 RB2/AN8/INT2/VMO, 24 RB3/AN9/CCP2/VPO, 25 RB4/AN11/KBI0, 26 RB5/KBI1/PGM, 27 RB6/KBI2/PGC, 28 RB7/KBI3/PGD

## PIC18F2520-xML
designator *  value PIC18F2520-xML  Reference: U
MCU 32k Flash, 1536B SRAM, 256B EEPROM, ADC, QFN-28; ki_keywords: Flash-Based 8bit CMOS Microcontroller; ki_fp_filters: QFN*1EP*6x6mm*P0.65mm*; Footprint: Package_DFN_QFN:QFN-28-1EP_6x6mm_P0.65mm_EP4.25x4.25mm; Datasheet: http://ww1.microchip.com/downloads/en/DeviceDoc/39631E.pdf; Description_: MCU 32k Flash, 1536B SRAM, 256B EEPROM, ADC, QFN-28
pins: 1 RE3/~{{MCLR}}, 2 RA0, 3 RA1, 4 RA2, 5 RA3, 6 RA4, 7 RA5, 8 VSS, 9 RA7, 10 RA6, 11 RC0, 12 RC1, 13 RC2, 14 RC3, 15 RC4, 16 RC5, 17 RC6, 18 RC7, 19 VSS, 20 VDD, 21 RB0, 22 RB1, 23 RB2, 24 RB3, 25 RB4, 26 RB5, 27 RB6, 28 RB7, 29 EP

## PIC18F2520-xSP
designator *  value PIC18F2520-xSP  Reference: U
MCU 32k Flash, 1536B SRAM, 256B EEPROM, ADC, DIP-28; ki_keywords: Flash-Based 8bit CMOS Microcontroller; ki_fp_filters: DIP*W15.24mm*; Footprint: Package_DIP:DIP-28_W15.24mm; Datasheet: http://ww1.microchip.com/downloads/en/DeviceDoc/39631E.pdf; Description_: MCU 32k Flash, 1536B SRAM, 256B EEPROM, ADC, DIP-28
pins: 1 RE3/~{{MCLR}}, 2 RA0, 3 RA1, 4 RA2, 5 RA3, 6 RA4, 7 RA5, 8 VSS, 9 RA7, 10 RA6, 11 RC0, 12 RC1, 13 RC2, 14 RC3, 15 RC4, 16 RC5, 17 RC6, 18 RC7, 19 VSS, 20 VDD, 21 RB0, 22 RB1, 23 RB2, 24 RB3, 25 RB4, 26 RB5, 27 RB6, 28 RB7

## PIC18F2550-ISO
designator *  value PIC18F2550-ISO  Reference: U
32K Flash, 2K SRAM, 256 EEPROM, USB, nanoWatt XLP, SOIC28; ki_keywords: Flash-Based 8-Bit Microcontroller XLP; ki_fp_filters: SO*W*7.5x17.9mm_P1.27mm*; Footprint: Package_SO:SOIC-28W_7.5x17.9mm_P1.27mm; Datasheet: http://ww1.microchip.com/downloads/en/devicedoc/39632c.pdf; Description_: 32K Flash, 2K SRAM, 256 EEPROM, USB, nanoWatt XLP, SOIC28
pins: 1 Vpp/~{{MCLR}/RE3}, 2 RA0/AN0, 3 RA1/AN1, 4 RA2/AN2/Vref-/CVref, 5 RA3/AN3/Vref+, 6 RA4/T0CKI/C1OUT/RCV, 7 RA5/AN4/~{{SS}/HLVDIN/C2OUT}, 8 VSS, 9 OSC1/CLKI, 10 RA6/OSC2/CLKO, 11 T1OSO/T13CKI/RC0, 12 ~{{UOE}/CCP2/T1OSI/RC1}, 13 CCP1/RC2, 14 VUSB, 15 VM/D-/RC4, 16 VP/D+/RC5, 17 TX/CK/RC6, 18 SDO/RX/DT/RC7, 19 VSS, 20 VDD, 21 RB0/AN12/INT0/FLT0/SDI/SDA, 22 RB1/AN10/INT1/SCK/SCL, 23 RB2/AN8/INT2/VMO, 24 RB3/AN9/CCP2/VPO, 25 RB4/AN11/KBI0, 26 RB5/KBI1/PGM, 27 RB6/KBI2/PGC, 28 RB7/KBI3/PGD

## PIC18F2550-ISP
designator *  value PIC18F2550-ISP  Reference: U
32K Flash, 2K SRAM, 256 EEPROM, USB, nanoWatt XLP, SPDIP28; ki_keywords: Flash-Based 8-Bit Microcontroller XLP; ki_fp_filters: SPDIP*28_W7.62mm* DIP*28_W7.62mm* PDIP*28_W7.62mm*; Footprint: Package_DIP:DIP-28_W7.62mm; Datasheet: http://ww1.microchip.com/downloads/en/devicedoc/39632c.pdf; Description_: 32K Flash, 2K SRAM, 256 EEPROM, USB, nanoWatt XLP, SPDIP28
pins: 1 Vpp/~{{MCLR}/RE3}, 2 RA0/AN0, 3 RA1/AN1, 4 RA2/AN2/Vref-/CVref, 5 RA3/AN3/Vref+, 6 RA4/T0CKI/C1OUT/RCV, 7 RA5/AN4/~{{SS}/HLVDIN/C2OUT}, 8 VSS, 9 OSC1/CLKI, 10 RA6/OSC2/CLKO, 11 T1OSO/T13CKI/RC0, 12 ~{{UOE}/CCP2/T1OSI/RC1}, 13 CCP1/RC2, 14 VUSB, 15 VM/D-/RC4, 16 VP/D+/RC5, 17 TX/CK/RC6, 18 SDO/RX/DT/RC7, 19 VSS, 20 VDD, 21 RB0/AN12/INT0/FLT0/SDI/SDA, 22 RB1/AN10/INT1/SCK/SCL, 23 RB2/AN8/INT2/VMO, 24 RB3/AN9/CCP2/VPO, 25 RB4/AN11/KBI0, 26 RB5/KBI1/PGM, 27 RB6/KBI2/PGC, 28 RB7/KBI3/PGD

## PIC18F4331-IML
designator *  value PIC18F4331-IML  Reference: U
8K Flash, 768B SRAM, 256B EEPROM, nanoWatt XLP, ADC, PWM, QFN44; ki_keywords: Flash-Based 8-Bit Microcontroller XLP; ki_fp_filters: QFN*1EP*8x8mm*P0.65mm*; Footprint: Package_DFN_QFN:QFN-44-1EP_8x8mm_P0.65mm_EP6.45x6.45mm; Datasheet: http://ww1.microchip.com/downloads/en/DeviceDoc/39616d.pdf; Description_: 8K Flash, 768B SRAM, 256B EEPROM, nanoWatt XLP, ADC, PWM, QFN44
pins: 1 RX/SDO/DT/RC7, 2 ~{{FLTA}/RD4}, 3 PWM4/RD5, 4 PWM6/RD6, 5 PWM7/RD7, 6 VSS, 7 VDD, 8 AVDD, 9 RB0/PWM0, 10 RB1/PWM1, 11 RB2/PWM2, 12 RB3/PWM3, 13 NC, 14 RB4/KBI0/PWM5, 15 RB5/KBI1/PWM4/PGM, 16 RB6/KBI2/PGC, 17 RB7/KBI3/PGD, 18 Vpp/~{{MCLR}/RE3}, 19 RA0/AN0, 20 RA1/AN1, 21 RA2/AN2/Vref-/CAP1/INDX, 22 RA3/AN3/Vref+/CAP2/QEA, 23 RA4/AN4/CAP3/QEB, 24 RA5/AN5/LVDIN, 25 AN6/RE0, 26 AN7/RE1, 27 AN8/RE2, 28 VDD, 29 AVDD, 30 AVSS, 31 VSS, 32 RA7/OSC1/CLKI, 33 RA6/OSC2/CLKO, 34 T1OSO/T1CKI/RC0, 35 ~{{FLTA}/T1OSI/CCP2/RC1}, 36 ~{{FLTB}/CCP1/RC2}, 37 INT0/T5CKI/T0CKI/RC3, 38 T5CKI/T0CKI/RD0, 39 SDO/RD1, 40 SDA/SDI/RD2, 41 SCL/SCK/RD3, 42 INT1/SDI/SDA/RC4, 43 INT2/SCK/SCL/RC5, 44 TX/~{{SS}/CK/RC6}

## PIC18F4331-IP
designator *  value PIC18F4331-IP  Reference: U
8K Flash, 768B SRAM, 256B EEPROM, nanoWatt XLP, ADC, PWM, DIP40; ki_keywords: Flash-Based 8-Bit Microcontroller XLP; ki_fp_filters: DIP*W15.24* PDIP*W15.24*; Footprint: Package_DIP:DIP-40_W15.24mm; Datasheet: http://ww1.microchip.com/downloads/en/DeviceDoc/39616d.pdf; Description_: 8K Flash, 768B SRAM, 256B EEPROM, nanoWatt XLP, ADC, PWM, DIP40
pins: 1 Vpp/~{{MCLR}/RE3}, 2 RA0/AN0, 3 RA1/AN1, 4 RA2/AN2/Vref-/CAP1/INDX, 5 RA3/AN3/Vref+/CAP2/QEA, 6 RA4/AN4/CAP3/QEB, 7 RA5/AN5/LVDIN, 8 AN6/RE0, 9 AN7/RE1, 10 AN8/RE2, 11 AVDD, 12 AVSS, 13 RA7/OSC1/CLKI, 14 RA6/OSC2/CLKO, 15 T1OSO/T1CKI/RC0, 16 ~{{FLTA}/T1OSI/CCP2/RC1}, 17 ~{{FLTB}/CCP1/RC2}, 18 INT0/T5CKI/T0CKI/RC3, 19 T5CKI/T0CKI/RD0, 20 SDO/RD1, 21 SDA/SDI/RD2, 22 SCL/SCK/RD3, 23 INT1/SDI/SDA/RC4, 24 INT2/SCK/SCL/RC5, 25 TX/~{{SS}/CK/RC6}, 26 RX/SDO/DT/RC7, 27 ~{{FLTA}/RD4}, 28 PWM4/RD5, 29 PWM6/RD6, 30 PWM7/RD7, 31 VSS, 32 VDD, 33 RB0/PWM0, 34 RB1/PWM1, 35 RB2/PWM2, 36 RB3/PWM3, 37 RB4/KBI0/PWM5, 38 RB5/KBI1/PWM4/PGM, 39 RB6/KBI2/PGC, 40 RB7/KBI3/PGD

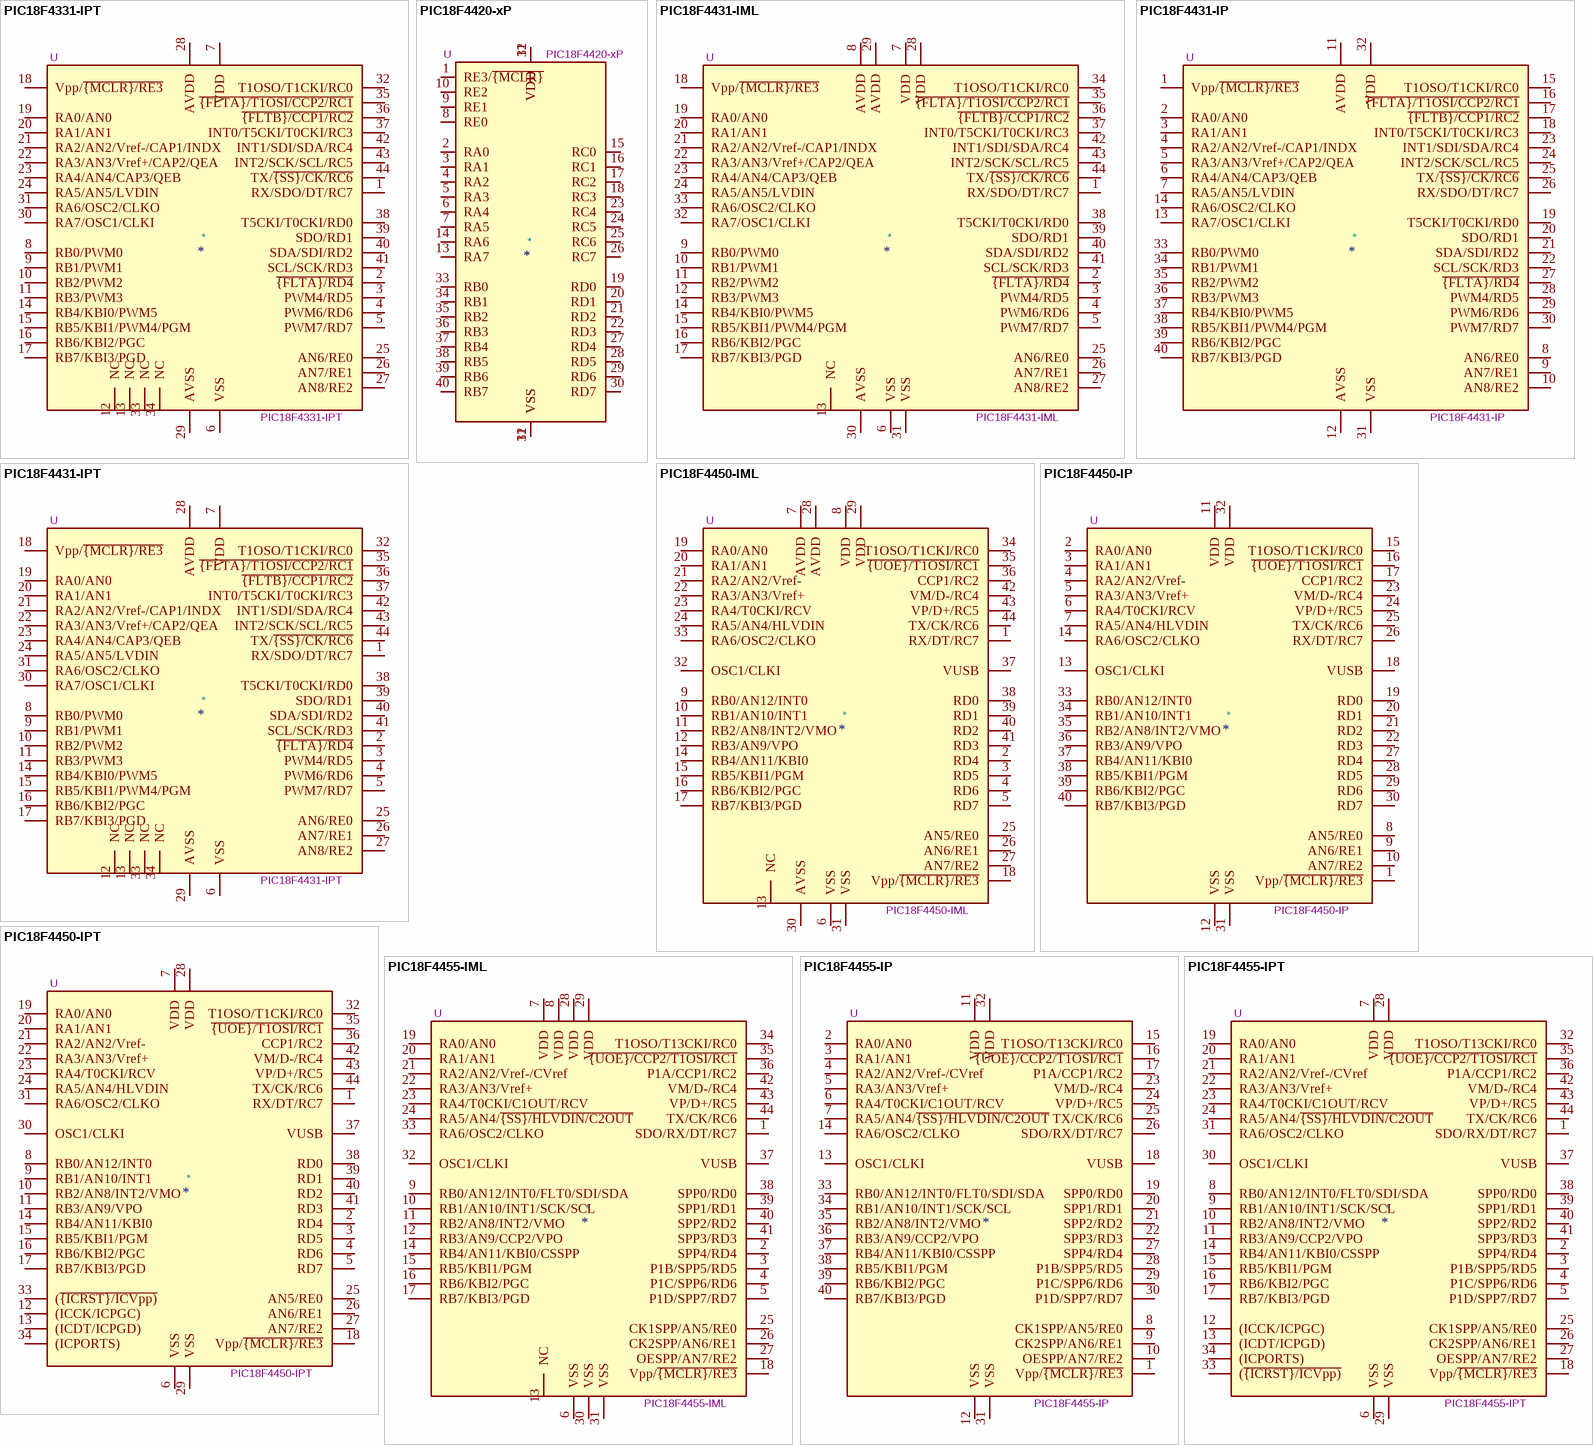
[diagram p8: symbols PIC18F4331-IPT to PIC18F4455-IPT]

## PIC18F4331-IPT
designator *  value PIC18F4331-IPT  Reference: U
8K Flash, 768B SRAM, 256B EEPROM, nanoWatt XLP, ADC, PWM, TQFP44; ki_keywords: Flash-Based 8-Bit Microcontroller XLP; ki_fp_filters: TQFP*10x10mm*P0.8mm*; Footprint: Package_QFP:TQFP-44_10x10mm_P0.8mm; Datasheet: http://ww1.microchip.com/downloads/en/DeviceDoc/39616d.pdf; Description_: 8K Flash, 768B SRAM, 256B EEPROM, nanoWatt XLP, ADC, PWM, TQFP44
pins: 1 RX/SDO/DT/RC7, 2 ~{{FLTA}/RD4}, 3 PWM4/RD5, 4 PWM6/RD6, 5 PWM7/RD7, 6 VSS, 7 VDD, 8 RB0/PWM0, 9 RB1/PWM1, 10 RB2/PWM2, 11 RB3/PWM3, 12 NC, 13 NC, 14 RB4/KBI0/PWM5, 15 RB5/KBI1/PWM4/PGM, 16 RB6/KBI2/PGC, 17 RB7/KBI3/PGD, 18 Vpp/~{{MCLR}/RE3}, 19 RA0/AN0, 20 RA1/AN1, 21 RA2/AN2/Vref-/CAP1/INDX, 22 RA3/AN3/Vref+/CAP2/QEA, 23 RA4/AN4/CAP3/QEB, 24 RA5/AN5/LVDIN, 25 AN6/RE0, 26 AN7/RE1, 27 AN8/RE2, 28 AVDD, 29 AVSS, 30 RA7/OSC1/CLKI, 31 RA6/OSC2/CLKO, 32 T1OSO/T1CKI/RC0, 33 NC, 34 NC, 35 ~{{FLTA}/T1OSI/CCP2/RC1}, 36 ~{{FLTB}/CCP1/RC2}, 37 INT0/T5CKI/T0CKI/RC3, 38 T5CKI/T0CKI/RD0, 39 SDO/RD1, 40 SDA/SDI/RD2, 41 SCL/SCK/RD3, 42 INT1/SDI/SDA/RC4, 43 INT2/SCK/SCL/RC5, 44 TX/~{{SS}/CK/RC6}

## PIC18F4420-xP
designator *  value PIC18F4420-xP  Reference: U
16K Flash, 768B SRAM, 256B EEPROM, ADC, DIP-40; ki_keywords: Flash-Based 8bit CMOS Microcontroller; ki_fp_filters: DIP*W15.24mm*; Footprint: Package_DIP:DIP-40_W15.24mm; Datasheet: http://ww1.microchip.com/downloads/en/DeviceDoc/39631E.pdf; Description_: 16K Flash, 768B SRAM, 256B EEPROM, ADC, DIP-40
pins: 1 RE3/~{{MCLR}}, 2 RA0, 3 RA1, 4 RA2, 5 RA3, 6 RA4, 7 RA5, 8 RE0, 9 RE1, 10 RE2, 11 VDD, 12 VSS, 13 RA7, 14 RA6, 15 RC0, 16 RC1, 17 RC2, 18 RC3, 19 RD0, 20 RD1, 21 RD2, 22 RD3, 23 RC4, 24 RC5, 25 RC6, 26 RC7, 27 RD4, 28 RD5, 29 RD6, 30 RD7, 31 VSS, 32 VDD, 33 RB0, 34 RB1, 35 RB2, 36 RB3, 37 RB4, 38 RB5, 39 RB6, 40 RB7

## PIC18F4431-IML
designator *  value PIC18F4431-IML  Reference: U
16K Flash, 768B SRAM, 256B EEPROM, nanoWatt XLP, ADC, PWM, QFN44; ki_keywords: Flash-Based 8-Bit Microcontroller XLP; ki_fp_filters: QFN*1EP*8x8mm*P0.65mm*; Footprint: Package_DFN_QFN:QFN-44-1EP_8x8mm_P0.65mm_EP6.45x6.45mm; Datasheet: http://ww1.microchip.com/downloads/en/DeviceDoc/39616d.pdf; Description_: 16K Flash, 768B SRAM, 256B EEPROM, nanoWatt XLP, ADC, PWM, QFN44
pins: 1 RX/SDO/DT/RC7, 2 ~{{FLTA}/RD4}, 3 PWM4/RD5, 4 PWM6/RD6, 5 PWM7/RD7, 6 VSS, 7 VDD, 8 AVDD, 9 RB0/PWM0, 10 RB1/PWM1, 11 RB2/PWM2, 12 RB3/PWM3, 13 NC, 14 RB4/KBI0/PWM5, 15 RB5/KBI1/PWM4/PGM, 16 RB6/KBI2/PGC, 17 RB7/KBI3/PGD, 18 Vpp/~{{MCLR}/RE3}, 19 RA0/AN0, 20 RA1/AN1, 21 RA2/AN2/Vref-/CAP1/INDX, 22 RA3/AN3/Vref+/CAP2/QEA, 23 RA4/AN4/CAP3/QEB, 24 RA5/AN5/LVDIN, 25 AN6/RE0, 26 AN7/RE1, 27 AN8/RE2, 28 VDD, 29 AVDD, 30 AVSS, 31 VSS, 32 RA7/OSC1/CLKI, 33 RA6/OSC2/CLKO, 34 T1OSO/T1CKI/RC0, 35 ~{{FLTA}/T1OSI/CCP2/RC1}, 36 ~{{FLTB}/CCP1/RC2}, 37 INT0/T5CKI/T0CKI/RC3, 38 T5CKI/T0CKI/RD0, 39 SDO/RD1, 40 SDA/SDI/RD2, 41 SCL/SCK/RD3, 42 INT1/SDI/SDA/RC4, 43 INT2/SCK/SCL/RC5, 44 TX/~{{SS}/CK/RC6}

## PIC18F4431-IP
designator *  value PIC18F4431-IP  Reference: U
16K Flash, 768B SRAM, 256B EEPROM, nanoWatt XLP, ADC, PWM, DIP40; ki_keywords: Flash-Based 8-Bit Microcontroller XLP; ki_fp_filters: DIP*W15.24* PDIP*W15.24*; Footprint: Package_DIP:DIP-40_W15.24mm; Datasheet: http://ww1.microchip.com/downloads/en/DeviceDoc/39616d.pdf; Description_: 16K Flash, 768B SRAM, 256B EEPROM, nanoWatt XLP, ADC, PWM, DIP40
pins: 1 Vpp/~{{MCLR}/RE3}, 2 RA0/AN0, 3 RA1/AN1, 4 RA2/AN2/Vref-/CAP1/INDX, 5 RA3/AN3/Vref+/CAP2/QEA, 6 RA4/AN4/CAP3/QEB, 7 RA5/AN5/LVDIN, 8 AN6/RE0, 9 AN7/RE1, 10 AN8/RE2, 11 AVDD, 12 AVSS, 13 RA7/OSC1/CLKI, 14 RA6/OSC2/CLKO, 15 T1OSO/T1CKI/RC0, 16 ~{{FLTA}/T1OSI/CCP2/RC1}, 17 ~{{FLTB}/CCP1/RC2}, 18 INT0/T5CKI/T0CKI/RC3, 19 T5CKI/T0CKI/RD0, 20 SDO/RD1, 21 SDA/SDI/RD2, 22 SCL/SCK/RD3, 23 INT1/SDI/SDA/RC4, 24 INT2/SCK/SCL/RC5, 25 TX/~{{SS}/CK/RC6}, 26 RX/SDO/DT/RC7, 27 ~{{FLTA}/RD4}, 28 PWM4/RD5, 29 PWM6/RD6, 30 PWM7/RD7, 31 VSS, 32 VDD, 33 RB0/PWM0, 34 RB1/PWM1, 35 RB2/PWM2, 36 RB3/PWM3, 37 RB4/KBI0/PWM5, 38 RB5/KBI1/PWM4/PGM, 39 RB6/KBI2/PGC, 40 RB7/KBI3/PGD

## PIC18F4431-IPT
designator *  value PIC18F4431-IPT  Reference: U
16K Flash, 768B SRAM, 256B EEPROM, nanoWatt XLP, ADC, PWM, TQFP44; ki_keywords: Flash-Based 8-Bit Microcontroller XLP; ki_fp_filters: TQFP*10x10mm*P0.8mm*; Footprint: Package_QFP:TQFP-44_10x10mm_P0.8mm; Datasheet: http://ww1.microchip.com/downloads/en/DeviceDoc/39616d.pdf; Description_: 16K Flash, 768B SRAM, 256B EEPROM, nanoWatt XLP, ADC, PWM, TQFP44
pins: 1 RX/SDO/DT/RC7, 2 ~{{FLTA}/RD4}, 3 PWM4/RD5, 4 PWM6/RD6, 5 PWM7/RD7, 6 VSS, 7 VDD, 8 RB0/PWM0, 9 RB1/PWM1, 10 RB2/PWM2, 11 RB3/PWM3, 12 NC, 13 NC, 14 RB4/KBI0/PWM5, 15 RB5/KBI1/PWM4/PGM, 16 RB6/KBI2/PGC, 17 RB7/KBI3/PGD, 18 Vpp/~{{MCLR}/RE3}, 19 RA0/AN0, 20 RA1/AN1, 21 RA2/AN2/Vref-/CAP1/INDX, 22 RA3/AN3/Vref+/CAP2/QEA, 23 RA4/AN4/CAP3/QEB, 24 RA5/AN5/LVDIN, 25 AN6/RE0, 26 AN7/RE1, 27 AN8/RE2, 28 AVDD, 29 AVSS, 30 RA7/OSC1/CLKI, 31 RA6/OSC2/CLKO, 32 T1OSO/T1CKI/RC0, 33 NC, 34 NC, 35 ~{{FLTA}/T1OSI/CCP2/RC1}, 36 ~{{FLTB}/CCP1/RC2}, 37 INT0/T5CKI/T0CKI/RC3, 38 T5CKI/T0CKI/RD0, 39 SDO/RD1, 40 SDA/SDI/RD2, 41 SCL/SCK/RD3, 42 INT1/SDI/SDA/RC4, 43 INT2/SCK/SCL/RC5, 44 TX/~{{SS}/CK/RC6}

## PIC18F4450-IML
designator *  value PIC18F4450-IML  Reference: U
16K Flash, 8K SRAM, USB, nanoWatt XLP, QFN44; ki_keywords: Flash-Based 8-Bit Microcontroller XLP; ki_fp_filters: QFN*1EP*8x8mm*P0.65mm*; Footprint: Package_DFN_QFN:QFN-44-1EP_8x8mm_P0.65mm_EP6.45x6.45mm; Datasheet: http://ww1.microchip.com/downloads/en/DeviceDoc/39760d.pdf; Description_: 16K Flash, 8K SRAM, USB, nanoWatt XLP, QFN44
pins: 1 RX/DT/RC7, 2 RD4, 3 RD5, 4 RD6, 5 RD7, 6 VSS, 7 AVDD, 8 VDD, 9 RB0/AN12/INT0, 10 RB1/AN10/INT1, 11 RB2/AN8/INT2/VMO, 12 RB3/AN9/VPO, 13 NC, 14 RB4/AN11/KBI0, 15 RB5/KBI1/PGM, 16 RB6/KBI2/PGC, 17 RB7/KBI3/PGD, 18 Vpp/~{{MCLR}/RE3}, 19 RA0/AN0, 20 RA1/AN1, 21 RA2/AN2/Vref-, 22 RA3/AN3/Vref+, 23 RA4/T0CKI/RCV, 24 RA5/AN4/HLVDIN, 25 AN5/RE0, 26 AN6/RE1, 27 AN7/RE2, 28 AVDD, 29 VDD, 30 AVSS, 31 VSS, 32 OSC1/CLKI, 33 RA6/OSC2/CLKO, 34 T1OSO/T1CKI/RC0, 35 ~{{UOE}/T1OSI/RC1}, 36 CCP1/RC2, 37 VUSB, 38 RD0, 39 RD1, 40 RD2, 41 RD3, 42 VM/D-/RC4, 43 VP/D+/RC5, 44 TX/CK/RC6

## PIC18F4450-IP
designator *  value PIC18F4450-IP  Reference: U
16K Flash, 8K SRAM, USB, nanoWatt XLP, PDIP40; ki_keywords: Flash-Based 8-Bit Microcontroller XLP; ki_fp_filters: DIP*W15.24mm* PDIP*W15.24mm*; Footprint: Package_DIP:DIP-40_W15.24mm; Datasheet: http://ww1.microchip.com/downloads/en/DeviceDoc/39760d.pdf; Description_: 16K Flash, 8K SRAM, USB, nanoWatt XLP, PDIP40
pins: 1 Vpp/~{{MCLR}/RE3}, 2 RA0/AN0, 3 RA1/AN1, 4 RA2/AN2/Vref-, 5 RA3/AN3/Vref+, 6 RA4/T0CKI/RCV, 7 RA5/AN4/HLVDIN, 8 AN5/RE0, 9 AN6/RE1, 10 AN7/RE2, 11 VDD, 12 VSS, 13 OSC1/CLKI, 14 RA6/OSC2/CLKO, 15 T1OSO/T1CKI/RC0, 16 ~{{UOE}/T1OSI/RC1}, 17 CCP1/RC2, 18 VUSB, 19 RD0, 20 RD1, 21 RD2, 22 RD3, 23 VM/D-/RC4, 24 VP/D+/RC5, 25 TX/CK/RC6, 26 RX/DT/RC7, 27 RD4, 28 RD5, 29 RD6, 30 RD7, 31 VSS, 32 VDD, 33 RB0/AN12/INT0, 34 RB1/AN10/INT1, 35 RB2/AN8/INT2/VMO, 36 RB3/AN9/VPO, 37 RB4/AN11/KBI0, 38 RB5/KBI1/PGM, 39 RB6/KBI2/PGC, 40 RB7/KBI3/PGD

## PIC18F4450-IPT
designator *  value PIC18F4450-IPT  Reference: U
16K Flash, 8K SRAM, USB, nanoWatt XLP, TQFP44; ki_keywords: Flash-Based 8-Bit Microcontroller XLP; ki_fp_filters: TQFP*10x10mm*P0.8mm*; Footprint: Package_QFP:TQFP-44_10x10mm_P0.8mm; Datasheet: http://ww1.microchip.com/downloads/en/DeviceDoc/39760d.pdf; Description_: 16K Flash, 8K SRAM, USB, nanoWatt XLP, TQFP44
pins: 1 RX/DT/RC7, 2 RD4, 3 RD5, 4 RD6, 5 RD7, 6 VSS, 7 VDD, 8 RB0/AN12/INT0, 9 RB1/AN10/INT1, 10 RB2/AN8/INT2/VMO, 11 RB3/AN9/VPO, 12 (ICCK/ICPGC), 13 (ICDT/ICPGD), 14 RB4/AN11/KBI0, 15 RB5/KBI1/PGM, 16 RB6/KBI2/PGC, 17 RB7/KBI3/PGD, 18 Vpp/~{{MCLR}/RE3}, 19 RA0/AN0, 20 RA1/AN1, 21 RA2/AN2/Vref-, 22 RA3/AN3/Vref+, 23 RA4/T0CKI/RCV, 24 RA5/AN4/HLVDIN, 25 AN5/RE0, 26 AN6/RE1, 27 AN7/RE2, 28 VDD, 29 VSS, 30 OSC1/CLKI, 31 RA6/OSC2/CLKO, 32 T1OSO/T1CKI/RC0, 33 (~{{ICRST}/ICVpp)}, 34 (ICPORTS), 35 ~{{UOE}/T1OSI/RC1}, 36 CCP1/RC2, 37 VUSB, 38 RD0, 39 RD1, 40 RD2, 41 RD3, 42 VM/D-/RC4, 43 VP/D+/RC5, 44 TX/CK/RC6

## PIC18F4455-IML
designator *  value PIC18F4455-IML  Reference: U
24K Flash, 2K SRAM, 256 EEPROM, USB, nanoWatt XLP, QFN44; ki_keywords: Flash-Based 8-Bit Microcontroller XLP; ki_fp_filters: QFN*1EP*8x8mm*P0.65mm*; Footprint: Package_DFN_QFN:QFN-44-1EP_8x8mm_P0.65mm_EP6.45x6.45mm; Datasheet: http://ww1.microchip.com/downloads/en/DeviceDoc/39760d.pdf; Description_: 24K Flash, 2K SRAM, 256 EEPROM, USB, nanoWatt XLP, QFN44
pins: 1 SDO/RX/DT/RC7, 2 SPP4/RD4, 3 P1B/SPP5/RD5, 4 P1C/SPP6/RD6, 5 P1D/SPP7/RD7, 6 VSS, 7 VDD, 8 VDD, 9 RB0/AN12/INT0/FLT0/SDI/SDA, 10 RB1/AN10/INT1/SCK/SCL, 11 RB2/AN8/INT2/VMO, 12 RB3/AN9/CCP2/VPO, 13 NC, 14 RB4/AN11/KBI0/CSSPP, 15 RB5/KBI1/PGM, 16 RB6/KBI2/PGC, 17 RB7/KBI3/PGD, 18 Vpp/~{{MCLR}/RE3}, 19 RA0/AN0, 20 RA1/AN1, 21 RA2/AN2/Vref-/CVref, 22 RA3/AN3/Vref+, 23 RA4/T0CKI/C1OUT/RCV, 24 RA5/AN4/~{{SS}/HLVDIN/C2OUT}, 25 CK1SPP/AN5/RE0, 26 CK2SPP/AN6/RE1, 27 OESPP/AN7/RE2, 28 VDD, 29 VDD, 30 VSS, 31 VSS, 32 OSC1/CLKI, 33 RA6/OSC2/CLKO, 34 T1OSO/T13CKI/RC0, 35 ~{{UOE}/CCP2/T1OSI/RC1}, 36 P1A/CCP1/RC2, 37 VUSB, 38 SPP0/RD0, 39 SPP1/RD1, 40 SPP2/RD2, 41 SPP3/RD3, 42 VM/D-/RC4, 43 VP/D+/RC5, 44 TX/CK/RC6

## PIC18F4455-IP
designator *  value PIC18F4455-IP  Reference: U
24K Flash, 2K SRAM, 256 EEPROM, USB, nanoWatt XLP, DIP40; ki_keywords: Flash-Based 8-Bit Microcontroller XLP; ki_fp_filters: DIP*W15.24mm* PDIP*W15.24mm*; Footprint: Package_DIP:DIP-40_W15.24mm; Datasheet: http://ww1.microchip.com/downloads/en/DeviceDoc/39760d.pdf; Description_: 24K Flash, 2K SRAM, 256 EEPROM, USB, nanoWatt XLP, DIP40
pins: 1 Vpp/~{{MCLR}/RE3}, 2 RA0/AN0, 3 RA1/AN1, 4 RA2/AN2/Vref-/CVref, 5 RA3/AN3/Vref+, 6 RA4/T0CKI/C1OUT/RCV, 7 RA5/AN4/~{{SS}/HLVDIN/C2OUT}, 8 CK1SPP/AN5/RE0, 9 CK2SPP/AN6/RE1, 10 OESPP/AN7/RE2, 11 VDD, 12 VSS, 13 OSC1/CLKI, 14 RA6/OSC2/CLKO, 15 T1OSO/T13CKI/RC0, 16 ~{{UOE}/CCP2/T1OSI/RC1}, 17 P1A/CCP1/RC2, 18 VUSB, 19 SPP0/RD0, 20 SPP1/RD1, 21 SPP2/RD2, 22 SPP3/RD3, 23 VM/D-/RC4, 24 VP/D+/RC5, 25 TX/CK/RC6, 26 SDO/RX/DT/RC7, 27 SPP4/RD4, 28 P1B/SPP5/RD5, 29 P1C/SPP6/RD6, 30 P1D/SPP7/RD7, 31 VSS, 32 VDD, 33 RB0/AN12/INT0/FLT0/SDI/SDA, 34 RB1/AN10/INT1/SCK/SCL, 35 RB2/AN8/INT2/VMO, 36 RB3/AN9/CCP2/VPO, 37 RB4/AN11/KBI0/CSSPP, 38 RB5/KBI1/PGM, 39 RB6/KBI2/PGC, 40 RB7/KBI3/PGD

## PIC18F4455-IPT
designator *  value PIC18F4455-IPT  Reference: U
24K Flash, 2K SRAM, 256 EEPROM, USB, nanoWatt XLP, TQFP44; ki_keywords: Flash-Based 8-Bit Microcontroller XLP; ki_fp_filters: TQFP*10x10mm*P0.8mm*; Footprint: Package_QFP:TQFP-44_10x10mm_P0.8mm; Datasheet: http://ww1.microchip.com/downloads/en/DeviceDoc/39760d.pdf; Description_: 24K Flash, 2K SRAM, 256 EEPROM, USB, nanoWatt XLP, TQFP44
pins: 1 SDO/RX/DT/RC7, 2 SPP4/RD4, 3 P1B/SPP5/RD5, 4 P1C/SPP6/RD6, 5 P1D/SPP7/RD7, 6 VSS, 7 VDD, 8 RB0/AN12/INT0/FLT0/SDI/SDA, 9 RB1/AN10/INT1/SCK/SCL, 10 RB2/AN8/INT2/VMO, 11 RB3/AN9/CCP2/VPO, 12 (ICCK/ICPGC), 13 (ICDT/ICPGD), 14 RB4/AN11/KBI0/CSSPP, 15 RB5/KBI1/PGM, 16 RB6/KBI2/PGC, 17 RB7/KBI3/PGD, 18 Vpp/~{{MCLR}/RE3}, 19 RA0/AN0, 20 RA1/AN1, 21 RA2/AN2/Vref-/CVref, 22 RA3/AN3/Vref+, 23 RA4/T0CKI/C1OUT/RCV, 24 RA5/AN4/~{{SS}/HLVDIN/C2OUT}, 25 CK1SPP/AN5/RE0, 26 CK2SPP/AN6/RE1, 27 OESPP/AN7/RE2, 28 VDD, 29 VSS, 30 OSC1/CLKI, 31 RA6/OSC2/CLKO, 32 T1OSO/T13CKI/RC0, 33 (~{{ICRST}/ICVpp)}, 34 (ICPORTS), 35 ~{{UOE}/CCP2/T1OSI/RC1}, 36 P1A/CCP1/RC2, 37 VUSB, 38 SPP0/RD0, 39 SPP1/RD1, 40 SPP2/RD2, 41 SPP3/RD3, 42 VM/D-/RC4, 43 VP/D+/RC5, 44 TX/CK/RC6

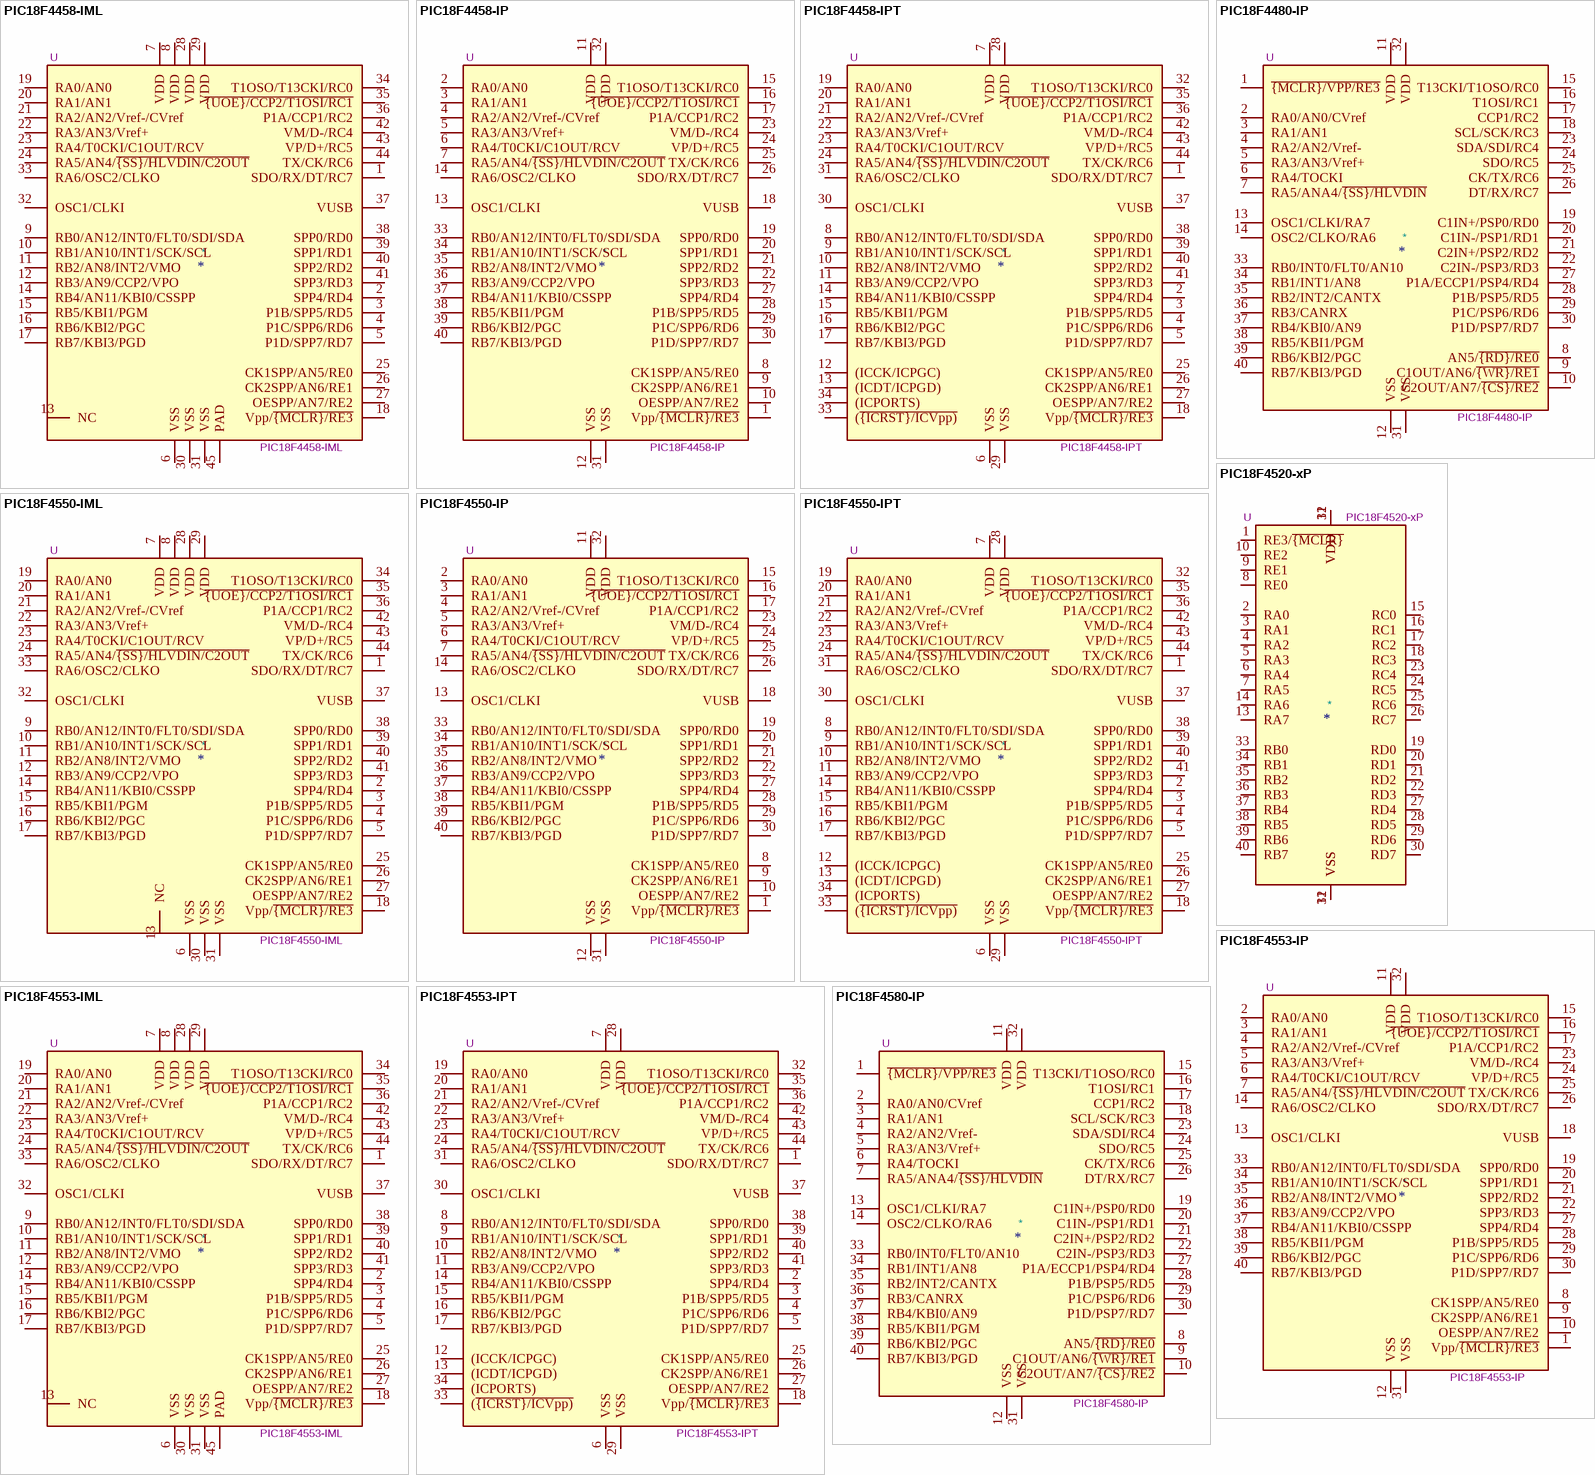
[diagram p9: symbols PIC18F4458-IML to PIC18F4580-IP]

## PIC18F4458-IML
designator *  value PIC18F4458-IML  Reference: U
24K Flash, 2K SRAM, 256 EEPROM, USB, 12-Bit A/D, nanoWatt XLP, QFN44; ki_keywords: Flash-Based 8-Bit Microcontroller XLP; ki_fp_filters: QFN*1EP*8x8mm*P0.65mm*; Footprint: Package_DFN_QFN:QFN-44-1EP_8x8mm_P0.65mm_EP6.45x6.45mm; Datasheet: http://ww1.microchip.com/downloads/en/DeviceDoc/39887c.pdf; Description_: 24K Flash, 2K SRAM, 256 EEPROM, USB, 12-Bit A/D, nanoWatt XLP, QFN44
pins: 1 SDO/RX/DT/RC7, 2 SPP4/RD4, 3 P1B/SPP5/RD5, 4 P1C/SPP6/RD6, 5 P1D/SPP7/RD7, 6 VSS, 7 VDD, 8 VDD, 9 RB0/AN12/INT0/FLT0/SDI/SDA, 10 RB1/AN10/INT1/SCK/SCL, 11 RB2/AN8/INT2/VMO, 12 RB3/AN9/CCP2/VPO, 13 NC, 14 RB4/AN11/KBI0/CSSPP, 15 RB5/KBI1/PGM, 16 RB6/KBI2/PGC, 17 RB7/KBI3/PGD, 18 Vpp/~{{MCLR}/RE3}, 19 RA0/AN0, 20 RA1/AN1, 21 RA2/AN2/Vref-/CVref, 22 RA3/AN3/Vref+, 23 RA4/T0CKI/C1OUT/RCV, 24 RA5/AN4/~{{SS}/HLVDIN/C2OUT}, 25 CK1SPP/AN5/RE0, 26 CK2SPP/AN6/RE1, 27 OESPP/AN7/RE2, 28 VDD, 29 VDD, 30 VSS, 31 VSS, 32 OSC1/CLKI, 33 RA6/OSC2/CLKO, 34 T1OSO/T13CKI/RC0, 35 ~{{UOE}/CCP2/T1OSI/RC1}, 36 P1A/CCP1/RC2, 37 VUSB, 38 SPP0/RD0, 39 SPP1/RD1, 40 SPP2/RD2, 41 SPP3/RD3, 42 VM/D-/RC4, 43 VP/D+/RC5, 44 TX/CK/RC6, 45 PAD

## PIC18F4458-IP
designator *  value PIC18F4458-IP  Reference: U
24K Flash, 2K SRAM, 256 EEPROM, USB, 12-Bit A/D, nanoWatt XLP, DIP40; ki_keywords: Flash-Based 8-Bit Microcontroller XLP; ki_fp_filters: DIP*W15.24mm* PDIP*W15.24mm*; Footprint: Package_DIP:DIP-40_W15.24mm; Datasheet: http://ww1.microchip.com/downloads/en/DeviceDoc/39887c.pdf; Description_: 24K Flash, 2K SRAM, 256 EEPROM, USB, 12-Bit A/D, nanoWatt XLP, DIP40
pins: 1 Vpp/~{{MCLR}/RE3}, 2 RA0/AN0, 3 RA1/AN1, 4 RA2/AN2/Vref-/CVref, 5 RA3/AN3/Vref+, 6 RA4/T0CKI/C1OUT/RCV, 7 RA5/AN4/~{{SS}/HLVDIN/C2OUT}, 8 CK1SPP/AN5/RE0, 9 CK2SPP/AN6/RE1, 10 OESPP/AN7/RE2, 11 VDD, 12 VSS, 13 OSC1/CLKI, 14 RA6/OSC2/CLKO, 15 T1OSO/T13CKI/RC0, 16 ~{{UOE}/CCP2/T1OSI/RC1}, 17 P1A/CCP1/RC2, 18 VUSB, 19 SPP0/RD0, 20 SPP1/RD1, 21 SPP2/RD2, 22 SPP3/RD3, 23 VM/D-/RC4, 24 VP/D+/RC5, 25 TX/CK/RC6, 26 SDO/RX/DT/RC7, 27 SPP4/RD4, 28 P1B/SPP5/RD5, 29 P1C/SPP6/RD6, 30 P1D/SPP7/RD7, 31 VSS, 32 VDD, 33 RB0/AN12/INT0/FLT0/SDI/SDA, 34 RB1/AN10/INT1/SCK/SCL, 35 RB2/AN8/INT2/VMO, 36 RB3/AN9/CCP2/VPO, 37 RB4/AN11/KBI0/CSSPP, 38 RB5/KBI1/PGM, 39 RB6/KBI2/PGC, 40 RB7/KBI3/PGD

## PIC18F4458-IPT
designator *  value PIC18F4458-IPT  Reference: U
24K Flash, 2K SRAM, 256 EEPROM, USB, 12-Bit A/D, nanoWatt XLP, TQFP44; ki_keywords: Flash-Based 8-Bit Microcontroller XLP; ki_fp_filters: TQFP*10x10mm*P0.8mm*; Footprint: Package_QFP:TQFP-44_10x10mm_P0.8mm; Datasheet: http://ww1.microchip.com/downloads/en/DeviceDoc/39887c.pdf; Description_: 24K Flash, 2K SRAM, 256 EEPROM, USB, 12-Bit A/D, nanoWatt XLP, TQFP44
pins: 1 SDO/RX/DT/RC7, 2 SPP4/RD4, 3 P1B/SPP5/RD5, 4 P1C/SPP6/RD6, 5 P1D/SPP7/RD7, 6 VSS, 7 VDD, 8 RB0/AN12/INT0/FLT0/SDI/SDA, 9 RB1/AN10/INT1/SCK/SCL, 10 RB2/AN8/INT2/VMO, 11 RB3/AN9/CCP2/VPO, 12 (ICCK/ICPGC), 13 (ICDT/ICPGD), 14 RB4/AN11/KBI0/CSSPP, 15 RB5/KBI1/PGM, 16 RB6/KBI2/PGC, 17 RB7/KBI3/PGD, 18 Vpp/~{{MCLR}/RE3}, 19 RA0/AN0, 20 RA1/AN1, 21 RA2/AN2/Vref-/CVref, 22 RA3/AN3/Vref+, 23 RA4/T0CKI/C1OUT/RCV, 24 RA5/AN4/~{{SS}/HLVDIN/C2OUT}, 25 CK1SPP/AN5/RE0, 26 CK2SPP/AN6/RE1, 27 OESPP/AN7/RE2, 28 VDD, 29 VSS, 30 OSC1/CLKI, 31 RA6/OSC2/CLKO, 32 T1OSO/T13CKI/RC0, 33 (~{{ICRST}/ICVpp)}, 34 (ICPORTS), 35 ~{{UOE}/CCP2/T1OSI/RC1}, 36 P1A/CCP1/RC2, 37 VUSB, 38 SPP0/RD0, 39 SPP1/RD1, 40 SPP2/RD2, 41 SPP3/RD3, 42 VM/D-/RC4, 43 VP/D+/RC5, 44 TX/CK/RC6

## PIC18F4480-IP
designator *  value PIC18F4480-IP  Reference: U
32K Flash, 768B SRAM, 256 EEPROM, ECAN, DIP40; ki_keywords: Flash-Based 8-Bit Microcontroller CAN; ki_fp_filters: DIP*W15.24mm* PDIP*W15.24mm*; Footprint: Package_DIP:DIP-40_W15.24mm; Datasheet: http://ww1.microchip.com/downloads/en/DeviceDoc/39637d.pdf; Description_: 32K Flash, 768B SRAM, 256 EEPROM, ECAN, DIP40
pins: 1 ~{{MCLR}/VPP/RE3}, 2 RA0/AN0/CVref, 3 RA1/AN1, 4 RA2/AN2/Vref-, 5 RA3/AN3/Vref+, 6 RA4/TOCKI, 7 RA5/ANA4/~{{SS}/HLVDIN}, 8 AN5/~{{RD}/RE0}, 9 C1OUT/AN6/~{{WR}/RE1}, 10 C2OUT/AN7/~{{CS}/RE2}, 11 VDD, 12 VSS, 13 OSC1/CLKI/RA7, 14 OSC2/CLKO/RA6, 15 T13CKI/T1OSO/RC0, 16 T1OSI/RC1, 17 CCP1/RC2, 18 SCL/SCK/RC3, 19 C1IN+/PSP0/RD0, 20 C1IN-/PSP1/RD1, 21 C2IN+/PSP2/RD2, 22 C2IN-/PSP3/RD3, 23 SDA/SDI/RC4, 24 SDO/RC5, 25 CK/TX/RC6, 26 DT/RX/RC7, 27 P1A/ECCP1/PSP4/RD4, 28 P1B/PSP5/RD5, 29 P1C/PSP6/RD6, 30 P1D/PSP7/RD7, 31 VSS, 32 VDD, 33 RB0/INT0/FLT0/AN10, 34 RB1/INT1/AN8, 35 RB2/INT2/CANTX, 36 RB3/CANRX, 37 RB4/KBI0/AN9, 38 RB5/KBI1/PGM, 39 RB6/KBI2/PGC, 40 RB7/KBI3/PGD

## PIC18F4520-xP
designator *  value PIC18F4520-xP  Reference: U
32K Flash, 1536b SRAM, 256b EEPROM, ADC, DIP-40; ki_fp_filters: DIP*W15.24mm*; Footprint: Package_DIP:DIP-40_W15.24mm; Datasheet: http://ww1.microchip.com/downloads/en/DeviceDoc/39631E.pdf; Description_: 32K Flash, 1536b SRAM, 256b EEPROM, ADC, DIP-40; ki_keywords: 32K Flash, 1536b SRAM, 256b EEPROM, ADC
pins: 1 RE3/~{{MCLR}}, 2 RA0, 3 RA1, 4 RA2, 5 RA3, 6 RA4, 7 RA5, 8 RE0, 9 RE1, 10 RE2, 11 VDD, 12 VSS, 13 RA7, 14 RA6, 15 RC0, 16 RC1, 17 RC2, 18 RC3, 19 RD0, 20 RD1, 21 RD2, 22 RD3, 23 RC4, 24 RC5, 25 RC6, 26 RC7, 27 RD4, 28 RD5, 29 RD6, 30 RD7, 31 VSS, 32 VDD, 33 RB0, 34 RB1, 35 RB2, 36 RB3, 37 RB4, 38 RB5, 39 RB6, 40 RB7

## PIC18F4550-IML
designator *  value PIC18F4550-IML  Reference: U
32K Flash, 2K SRAM, 256 EEPROM, USB, nanoWatt XLP, QFN44; ki_keywords: Flash-Based 8-Bit Microcontroller XLP; ki_fp_filters: QFN*1EP*8x8mm*P0.65mm*; Footprint: Package_DFN_QFN:QFN-44-1EP_8x8mm_P0.65mm_EP6.45x6.45mm; Datasheet: http://ww1.microchip.com/downloads/en/DeviceDoc/39760d.pdf; Description_: 32K Flash, 2K SRAM, 256 EEPROM, USB, nanoWatt XLP, QFN44
pins: 1 SDO/RX/DT/RC7, 2 SPP4/RD4, 3 P1B/SPP5/RD5, 4 P1C/SPP6/RD6, 5 P1D/SPP7/RD7, 6 VSS, 7 VDD, 8 VDD, 9 RB0/AN12/INT0/FLT0/SDI/SDA, 10 RB1/AN10/INT1/SCK/SCL, 11 RB2/AN8/INT2/VMO, 12 RB3/AN9/CCP2/VPO, 13 NC, 14 RB4/AN11/KBI0/CSSPP, 15 RB5/KBI1/PGM, 16 RB6/KBI2/PGC, 17 RB7/KBI3/PGD, 18 Vpp/~{{MCLR}/RE3}, 19 RA0/AN0, 20 RA1/AN1, 21 RA2/AN2/Vref-/CVref, 22 RA3/AN3/Vref+, 23 RA4/T0CKI/C1OUT/RCV, 24 RA5/AN4/~{{SS}/HLVDIN/C2OUT}, 25 CK1SPP/AN5/RE0, 26 CK2SPP/AN6/RE1, 27 OESPP/AN7/RE2, 28 VDD, 29 VDD, 30 VSS, 31 VSS, 32 OSC1/CLKI, 33 RA6/OSC2/CLKO, 34 T1OSO/T13CKI/RC0, 35 ~{{UOE}/CCP2/T1OSI/RC1}, 36 P1A/CCP1/RC2, 37 VUSB, 38 SPP0/RD0, 39 SPP1/RD1, 40 SPP2/RD2, 41 SPP3/RD3, 42 VM/D-/RC4, 43 VP/D+/RC5, 44 TX/CK/RC6

## PIC18F4550-IP
designator *  value PIC18F4550-IP  Reference: U
32K Flash, 2K SRAM, 256 EEPROM, USB, nanoWatt XLP, DIP40; ki_keywords: Flash-Based 8-Bit Microcontroller XLP; ki_fp_filters: DIP*W15.24mm* PDIP*W15.24mm*; Footprint: Package_DIP:DIP-40_W15.24mm; Datasheet: http://ww1.microchip.com/downloads/en/DeviceDoc/39760d.pdf; Description_: 32K Flash, 2K SRAM, 256 EEPROM, USB, nanoWatt XLP, DIP40
pins: 1 Vpp/~{{MCLR}/RE3}, 2 RA0/AN0, 3 RA1/AN1, 4 RA2/AN2/Vref-/CVref, 5 RA3/AN3/Vref+, 6 RA4/T0CKI/C1OUT/RCV, 7 RA5/AN4/~{{SS}/HLVDIN/C2OUT}, 8 CK1SPP/AN5/RE0, 9 CK2SPP/AN6/RE1, 10 OESPP/AN7/RE2, 11 VDD, 12 VSS, 13 OSC1/CLKI, 14 RA6/OSC2/CLKO, 15 T1OSO/T13CKI/RC0, 16 ~{{UOE}/CCP2/T1OSI/RC1}, 17 P1A/CCP1/RC2, 18 VUSB, 19 SPP0/RD0, 20 SPP1/RD1, 21 SPP2/RD2, 22 SPP3/RD3, 23 VM/D-/RC4, 24 VP/D+/RC5, 25 TX/CK/RC6, 26 SDO/RX/DT/RC7, 27 SPP4/RD4, 28 P1B/SPP5/RD5, 29 P1C/SPP6/RD6, 30 P1D/SPP7/RD7, 31 VSS, 32 VDD, 33 RB0/AN12/INT0/FLT0/SDI/SDA, 34 RB1/AN10/INT1/SCK/SCL, 35 RB2/AN8/INT2/VMO, 36 RB3/AN9/CCP2/VPO, 37 RB4/AN11/KBI0/CSSPP, 38 RB5/KBI1/PGM, 39 RB6/KBI2/PGC, 40 RB7/KBI3/PGD

## PIC18F4550-IPT
designator *  value PIC18F4550-IPT  Reference: U
32K Flash, 2K SRAM, 256 EEPROM, USB, nanoWatt XLP, TQFP44; ki_keywords: Flash-Based 8-Bit Microcontroller XLP; ki_fp_filters: TQFP*10x10mm*P0.8mm*; Footprint: Package_QFP:TQFP-44_10x10mm_P0.8mm; Datasheet: http://ww1.microchip.com/downloads/en/DeviceDoc/39760d.pdf; Description_: 32K Flash, 2K SRAM, 256 EEPROM, USB, nanoWatt XLP, TQFP44
pins: 1 SDO/RX/DT/RC7, 2 SPP4/RD4, 3 P1B/SPP5/RD5, 4 P1C/SPP6/RD6, 5 P1D/SPP7/RD7, 6 VSS, 7 VDD, 8 RB0/AN12/INT0/FLT0/SDI/SDA, 9 RB1/AN10/INT1/SCK/SCL, 10 RB2/AN8/INT2/VMO, 11 RB3/AN9/CCP2/VPO, 12 (ICCK/ICPGC), 13 (ICDT/ICPGD), 14 RB4/AN11/KBI0/CSSPP, 15 RB5/KBI1/PGM, 16 RB6/KBI2/PGC, 17 RB7/KBI3/PGD, 18 Vpp/~{{MCLR}/RE3}, 19 RA0/AN0, 20 RA1/AN1, 21 RA2/AN2/Vref-/CVref, 22 RA3/AN3/Vref+, 23 RA4/T0CKI/C1OUT/RCV, 24 RA5/AN4/~{{SS}/HLVDIN/C2OUT}, 25 CK1SPP/AN5/RE0, 26 CK2SPP/AN6/RE1, 27 OESPP/AN7/RE2, 28 VDD, 29 VSS, 30 OSC1/CLKI, 31 RA6/OSC2/CLKO, 32 T1OSO/T13CKI/RC0, 33 (~{{ICRST}/ICVpp)}, 34 (ICPORTS), 35 ~{{UOE}/CCP2/T1OSI/RC1}, 36 P1A/CCP1/RC2, 37 VUSB, 38 SPP0/RD0, 39 SPP1/RD1, 40 SPP2/RD2, 41 SPP3/RD3, 42 VM/D-/RC4, 43 VP/D+/RC5, 44 TX/CK/RC6